# Altium schematic symbol library Analog_ADC.SchLib: 173 symbols (part 1 of 3)
Pins are listed as number, name and electrical type; pins without a type are passive.

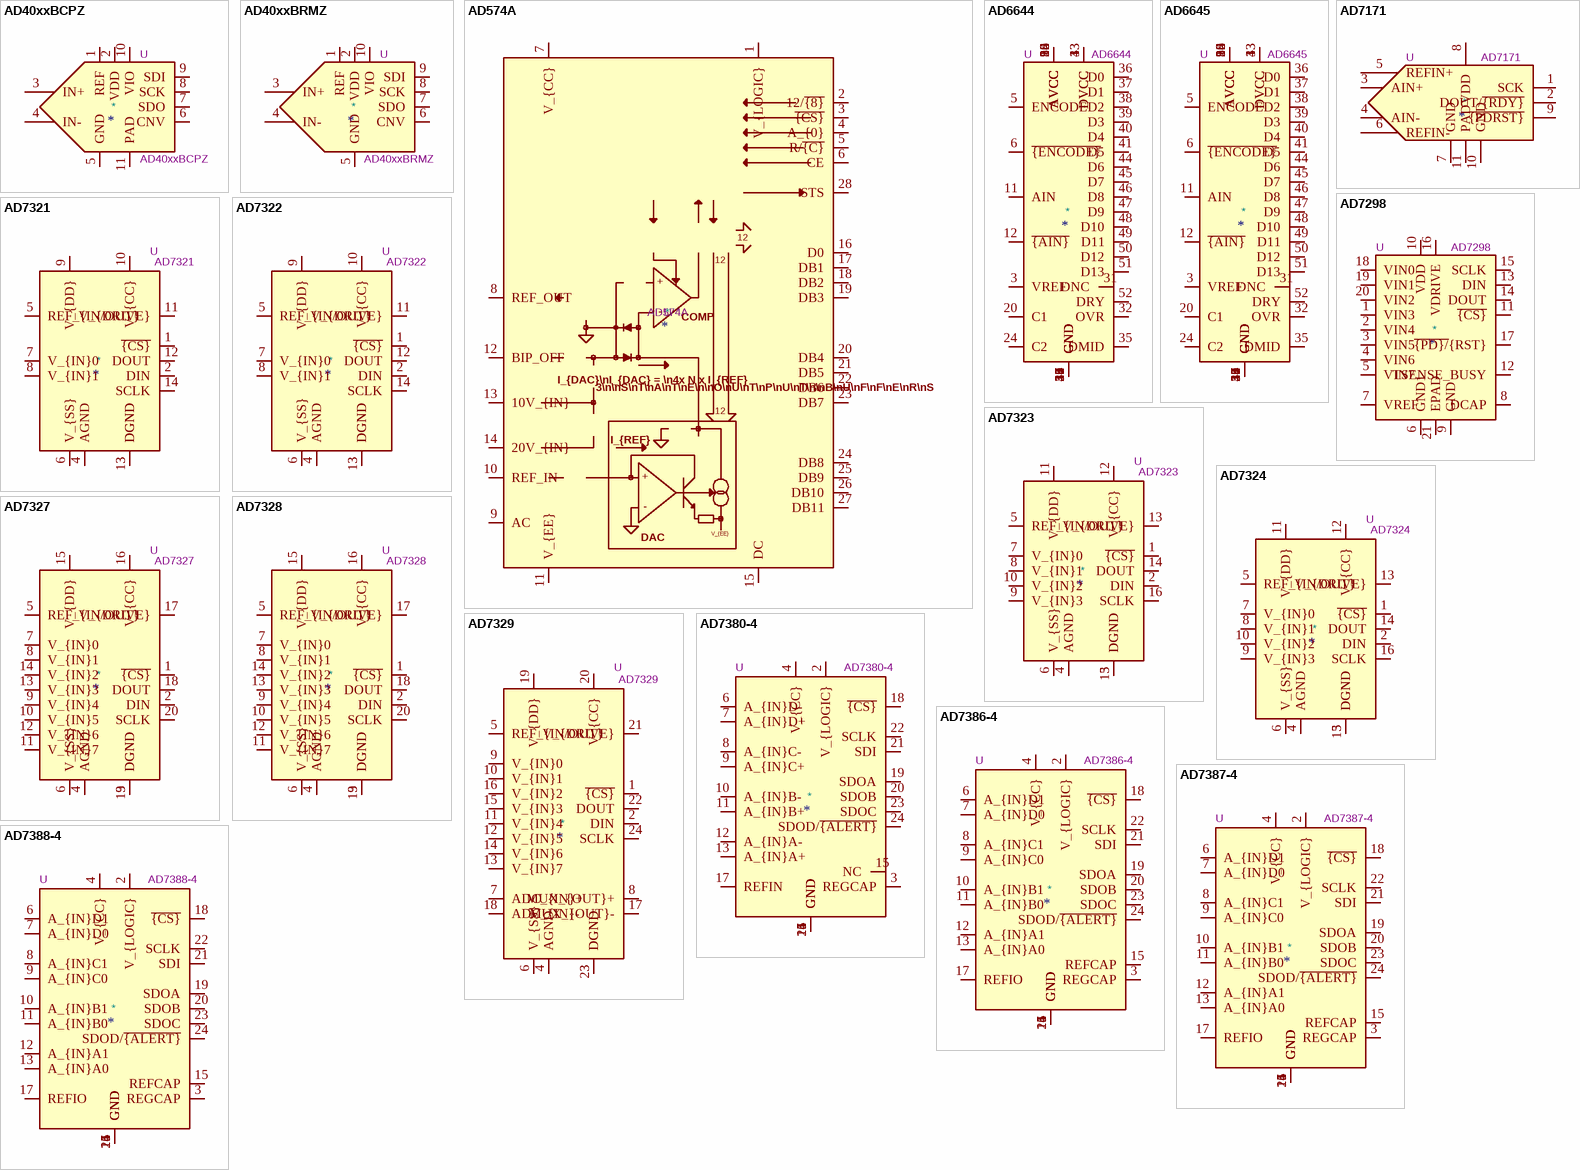
[diagram p0: symbols AD40xxBCPZ to AD7388-4]

## AD40xxBCPZ
designator *  value AD40xxBCPZ  Reference: U
18-Bit, 2 MSPS/1 MSPS/500 kSPS, Differential SAR ADCs, 2.4V to 5.1V reference, 1.8V supply, 1.71 to 5.5V logic IO, 3x3mm LFCSP-10; ki_keywords: ADC 18-bit AD4003BCPZ AD4007BCPZ AD4011BCPZ; ki_fp_filters: *LFCSP?WD*EP?3x3mm?P0.5mm?EP1.64x2.38mm*; Footprint: Package_CSP:LFCSP-WD-10-1EP_3x3mm_P0.5mm_EP1.64x2.38mm; Datasheet: https://www.analog.com/media/en/technical-documentation/data-sheets/ad4003-4007-4011.pdf; Description_: 18-Bit, 2 MSPS/1 MSPS/500 kSPS, Differential SAR ADCs, 2.4V to 5.1V reference, 1.8V supply, 1.71 to 5.5V logic IO, 3x3mm LFCSP-10
pins: 1 REF, 2 VDD, 3 IN+, 4 IN-, 5 GND, 6 CNV, 7 SDO, 8 SCK, 9 SDI, 10 VIO, 11 PAD

## AD40xxBRMZ
designator *  value AD40xxBRMZ  Reference: U
18-Bit, 2 MSPS/1 MSPS/500 kSPS, Differential SAR ADCs, 2.4V to 5.1V reference, 1.8V supply, 1.71 to 5.5V logic IO, MSOP-10; ki_keywords: ADC 18-bit AD4003BRMZ AD4007BRMZ AD4011BRMZ; ki_fp_filters: *MSOP*3x3mm?P0.5mm*; Footprint: Package_SO:MSOP-10_3x3mm_P0.5mm; Datasheet: https://www.analog.com/media/en/technical-documentation/data-sheets/ad4003-4007-4011.pdf; Description_: 18-Bit, 2 MSPS/1 MSPS/500 kSPS, Differential SAR ADCs, 2.4V to 5.1V reference, 1.8V supply, 1.71 to 5.5V logic IO, MSOP-10
pins: 1 REF, 2 VDD, 3 IN+, 4 IN-, 5 GND, 6 CNV, 7 SDO, 8 SCK, 9 SDI, 10 VIO

## AD574A
designator *  value AD574A  Reference: U
12-Bit Successive-Approximation (SAR) ADC; ki_keywords: analog; ki_fp_filters: *DIP*W15.24mm* *PLCC* *LCC*; Datasheet: https://www.analog.com/media/en/technical-documentation/data-sheets/ad574a.pdf; Description_: 12-Bit Successive-Approximation (SAR) ADC
pins: 1 V_{LOGIC}, 2 12/~{{8}}, 3 ~{{CS}}, 4 A_{0}, 5 R/~{{C}}, 6 CE, 7 V_{CC}, 8 REF_OUT, 9 AC, 10 REF_IN, 11 V_{EE}, 12 BIP_OFF, 13 10V_{IN}, 14 20V_{IN}, 15 DC, 16 D0, 17 DB1, 18 DB2, 19 DB3, 20 DB4, 21 DB5, 22 DB6, 23 DB7, 24 DB8, 25 DB9, 26 DB10, 27 DB11, 28 STS
text: +; -; COMP; I_{DAC}\nI_{DAC} = \n4x N x I_{REF}; 3\n\nS\nT\nA\nT\nE\n\nO\nU\nT\nP\nU\nT\n\nB\nU\nF\nF\nE\nR\nS; I_{REF}; DAC

## AD6644
designator *  value AD6644  Reference: U
A/D Converter, 14-Bit, 40 MSPS/65 MSPS, TQFP-52; ki_keywords: ADC differential analog digital converter; ki_fp_filters: TQFP*1EP*10x10mm*P0.65mm*; Footprint: Package_QFP:TQFP-52-1EP_10x10mm_P0.65mm_EP6.5x6.5mm; Datasheet: https://www.analog.com/media/en/technical-documentation/data-sheets/AD6644.pdf; Description_: A/D Converter, 14-Bit, 40 MSPS/65 MSPS, TQFP-52
pins: 1 DVCC, 2 GND, 3 VREF, 4 GND, 5 ENCODE, 6 ~{{ENCODE}}, 7 GND, 8 AVCC, 9 AVCC, 10 GND, 11 AIN, 12 ~{{AIN}}, 13 GND, 14 AVCC, 15 GND, 16 AVCC, 17 GND, 18 AVCC, 19 GND, 20 C1, 21 GND, 22 AVCC, 23 GND, 24 C2, 25 GND, 26 AVCC, 27 GND, 28 AVCC, 29 GND, 30 AVCC, 31 DNC, 32 OVR, 33 DVCC, 34 GND, 35 DMID, 36 D0, 37 D1, 38 D2, 39 D3, 40 D4, 41 D5, 42 GND, 43 DVCC, 44 D6, 45 D7, 46 D8, 47 D9, 48 D10, 49 D11, 50 D12, 51 D13, 52 DRY, 53 GND

## AD6645
designator *  value AD6645  Reference: U
A/D Converter, 14-Bit, 80 MSPS/105 MSPS, TQFP-52; ki_keywords: ADC differential analog digital converter; ki_fp_filters: TQFP*1EP*10x10mm*P0.65mm*; Footprint: Package_QFP:TQFP-52-1EP_10x10mm_P0.65mm_EP6.5x6.5mm; Datasheet: https://www.analog.com/media/en/technical-documentation/data-sheets/AD6645.pdf; Description_: A/D Converter, 14-Bit, 80 MSPS/105 MSPS, TQFP-52
pins: 1 DVCC, 2 GND, 3 VREF, 4 GND, 5 ENCODE, 6 ~{{ENCODE}}, 7 GND, 8 AVCC, 9 AVCC, 10 GND, 11 AIN, 12 ~{{AIN}}, 13 GND, 14 AVCC, 15 GND, 16 AVCC, 17 GND, 18 AVCC, 19 GND, 20 C1, 21 GND, 22 AVCC, 23 GND, 24 C2, 25 GND, 26 AVCC, 27 GND, 28 AVCC, 29 GND, 30 AVCC, 31 DNC, 32 OVR, 33 DVCC, 34 GND, 35 DMID, 36 D0, 37 D1, 38 D2, 39 D3, 40 D4, 41 D5, 42 GND, 43 DVCC, 44 D6, 45 D7, 46 D8, 47 D9, 48 D10, 49 D11, 50 D12, 51 D13, 52 DRY, 53 GND

## AD7171
designator *  value AD7171  Reference: U
Single channel Analog to Digital Converter, 16-bit, differential input, 125Hz, SPI interface; ki_keywords: sigma delta adc spi 1ch; ki_fp_filters: DFN*1EP*3x3mm*P0.5mm*EP1.55x2.48mm*; Footprint: Package_DFN_QFN:DFN-10-1EP_3x3mm_P0.5mm_EP1.55x2.48mm; Datasheet: https://www.analog.com/media/en/technical-documentation/data-sheets/AD7171.pdf; Description_: Single channel Analog to Digital Converter, 16-bit, differential input, 125Hz, SPI interface
pins: 1 SCK, 2 DOUT/~{{RDY}}, 3 AIN+, 4 AIN-, 5 REFIN+, 6 REFIN-, 7 GND, 8 VDD, 9 ~{{PDRST}}, 10 GND, 11 PAD

## AD7298
designator *  value AD7298  Reference: U
8 channel, 1MSPS, 12-bit SAR ADC with Temperature Sensor, LFCSP-20; ki_keywords: ADC, 3.3V, SPI; ki_fp_filters: LFCSP*1EP*4x4mm*P0.5mm*; Footprint: Package_CSP:LFCSP-20-1EP_4x4mm_P0.5mm_EP2.6x2.6mm_ThermalVias; Datasheet: https://www.analog.com/media/en/technical-documentation/data-sheets/AD7298.pdf; Description_: 8 channel, 1MSPS, 12-bit SAR ADC with Temperature Sensor, LFCSP-20
pins: 1 VIN3, 2 VIN4, 3 VIN5, 4 VIN6, 5 VIN7, 6 GND1, 7 VREF, 8 DCAP, 9 GND, 10 VDD, 11 ~{{CS}}, 12 TSENSE_BUSY, 13 DIN, 14 DOUT, 15 SCLK, 16 VDRIVE, 17 ~{{PD}/}{RST}, 18 VIN0, 19 VIN1, 20 VIN2, 21 EPAD

## AD7321
designator *  value AD7321  Reference: U
2-Channel, software selectable input range ±10 V, ±5V, ±2.5V, 0 V to +10 V, true bipolar input, 12-Bit plus sign, 500 kSPS SAR ADC, TSSOP-14; ki_keywords: Analog-Devices ADC bipolar 12-Bit SPI; ki_fp_filters: TSSOP*4.4x5mm*P0.65mm*; Footprint: Package_SO:TSSOP-14_4.4x5mm_P0.65mm; Datasheet: https://www.analog.com/media/en/technical-documentation/data-sheets/AD7321.pdf; Description_: 2-Channel, software selectable input range ±10 V, ±5V, ±2.5V, 0 V to +10 V, true bipolar input, 12-Bit plus sign, 500 kSPS SAR ADC, TSSOP-14
pins: 1 ~{{CS}}, 2 DIN, 3 DGND, 4 AGND, 5 REF_{IN/OUT}, 6 V_{SS}, 7 V_{IN}0, 8 V_{IN}1, 9 V_{DD}, 10 V_{CC}, 11 V_{DRIVE}, 12 DOUT, 13 DGND, 14 SCLK

## AD7322
designator *  value AD7322  Reference: U
2-Channel, software selectable input range ±10 V, ±5V, ±2.5V, 0 V to +10 V, true bipolar input, 12-Bit plus sign, 1 MSPS SAR ADC, TSSOP-14; ki_keywords: Analog-Devices ADC bipolar 12-Bit SPI; ki_fp_filters: TSSOP*4.4x5mm*P0.65mm*; Footprint: Package_SO:TSSOP-14_4.4x5mm_P0.65mm; Datasheet: https://www.analog.com/media/en/technical-documentation/data-sheets/AD7322.pdf; Description_: 2-Channel, software selectable input range ±10 V, ±5V, ±2.5V, 0 V to +10 V, true bipolar input, 12-Bit plus sign, 1 MSPS SAR ADC, TSSOP-14
pins: 1 ~{{CS}}, 2 DIN, 3 DGND, 4 AGND, 5 REF_{IN/OUT}, 6 V_{SS}, 7 V_{IN}0, 8 V_{IN}1, 9 V_{DD}, 10 V_{CC}, 11 V_{DRIVE}, 12 DOUT, 13 DGND, 14 SCLK

## AD7323
designator *  value AD7323  Reference: U
4-Channel, software selectable input range ±10 V, ±5V, ±2.5V, 0 V to +10 V, true bipolar input, 12-Bit plus sign, 500 kSPS SAR ADC, TSSOP-16; ki_keywords: Analog-Devices ADC bipolar 12-Bit SPI; ki_fp_filters: TSSOP*4.4x5mm*P0.65mm*; Footprint: Package_SO:TSSOP-16_4.4x5mm_P0.65mm; Datasheet: https://www.analog.com/media/en/technical-documentation/data-sheets/AD7323.pdf; Description_: 4-Channel, software selectable input range ±10 V, ±5V, ±2.5V, 0 V to +10 V, true bipolar input, 12-Bit plus sign, 500 kSPS SAR ADC, TSSOP-16
pins: 1 ~{{CS}}, 2 DIN, 3 DGND, 4 AGND, 5 REF_{IN/OUT}, 6 V_{SS}, 7 V_{IN}0, 8 V_{IN}1, 9 V_{IN}3, 10 V_{IN}2, 11 V_{DD}, 12 V_{CC}, 13 V_{DRIVE}, 14 DOUT, 15 DGND, 16 SCLK

## AD7324
designator *  value AD7324  Reference: U
4-Channel, software selectable input range ±10 V, ±5V, ±2.5V, 0 V to +10 V, true bipolar input, 12-Bit plus sign, 1 MSPS SAR ADC, TSSOP-16; ki_keywords: Analog-Devices ADC bipolar 12-Bit SPI; ki_fp_filters: TSSOP*4.4x5mm*P0.65mm*; Footprint: Package_SO:TSSOP-16_4.4x5mm_P0.65mm; Datasheet: https://www.analog.com/media/en/technical-documentation/data-sheets/AD7324.pdf; Description_: 4-Channel, software selectable input range ±10 V, ±5V, ±2.5V, 0 V to +10 V, true bipolar input, 12-Bit plus sign, 1 MSPS SAR ADC, TSSOP-16
pins: 1 ~{{CS}}, 2 DIN, 3 DGND, 4 AGND, 5 REF_{IN/OUT}, 6 V_{SS}, 7 V_{IN}0, 8 V_{IN}1, 9 V_{IN}3, 10 V_{IN}2, 11 V_{DD}, 12 V_{CC}, 13 V_{DRIVE}, 14 DOUT, 15 DGND, 16 SCLK

## AD7327
designator *  value AD7327  Reference: U
8-Channel, software selectable input range ±10 V, ±5V, ±2.5V, 0 V to +10 V, true bipolar input, 12-Bit plus sign, 500 kSPS SAR ADC, TSSOP-20; ki_keywords: Analog-Devices ADC bipolar 12-Bit SPI; ki_fp_filters: TSSOP*4.4x6.5mm*P0.65mm*; Footprint: Package_SO:TSSOP-20_4.4x6.5mm_P0.65mm; Datasheet: https://www.analog.com/media/en/technical-documentation/data-sheets/ad7327.pdf; Description_: 8-Channel, software selectable input range ±10 V, ±5V, ±2.5V, 0 V to +10 V, true bipolar input, 12-Bit plus sign, 500 kSPS SAR ADC, TSSOP-20
pins: 1 ~{{CS}}, 2 DIN, 3 DGND, 4 AGND, 5 REF_{IN/OUT}, 6 V_{SS}, 7 V_{IN}0, 8 V_{IN}1, 9 V_{IN}4, 10 V_{IN}5, 11 V_{IN}7, 12 V_{IN}6, 13 V_{IN}3, 14 V_{IN}2, 15 V_{DD}, 16 V_{CC}, 17 V_{DRIVE}, 18 DOUT, 19 DGND, 20 SCLK

## AD7328
designator *  value AD7328  Reference: U
8-Channel, software selectable input range ±10 V, ±5V, ±2.5V, 0 V to +10 V, true bipolar input, 12-Bit plus sign, 1 MSPS SAR ADC, TSSOP-20; ki_keywords: Analog-Devices ADC bipolar 12-Bit SPI; ki_fp_filters: TSSOP*4.4x6.5mm*P0.65mm*; Footprint: Package_SO:TSSOP-20_4.4x6.5mm_P0.65mm; Datasheet: https://www.analog.com/media/en/technical-documentation/data-sheets/AD7328.pdf; Description_: 8-Channel, software selectable input range ±10 V, ±5V, ±2.5V, 0 V to +10 V, true bipolar input, 12-Bit plus sign, 1 MSPS SAR ADC, TSSOP-20
pins: 1 ~{{CS}}, 2 DIN, 3 DGND, 4 AGND, 5 REF_{IN/OUT}, 6 V_{SS}, 7 V_{IN}0, 8 V_{IN}1, 9 V_{IN}4, 10 V_{IN}5, 11 V_{IN}7, 12 V_{IN}6, 13 V_{IN}3, 14 V_{IN}2, 15 V_{DD}, 16 V_{CC}, 17 V_{DRIVE}, 18 DOUT, 19 DGND, 20 SCLK

## AD7329
designator *  value AD7329  Reference: U
8-Channel, software selectable input range ±10 V, ±5V, ±2.5V, 0 V to +10 V, true bipolar input, 12-Bit plus sign, 1 MSPS SAR ADC, TSSOP-24; ki_keywords: Analog-Devices ADC bipolar 12-Bit SPI; ki_fp_filters: TSSOP*4.4x7.8mm*P0.65mm*; Footprint: Package_SO:TSSOP-24_4.4x7.8mm_P0.65mm; Datasheet: https://www.analog.com/media/en/technical-documentation/data-sheets/AD7329.pdf; Description_: 8-Channel, software selectable input range ±10 V, ±5V, ±2.5V, 0 V to +10 V, true bipolar input, 12-Bit plus sign, 1 MSPS SAR ADC, TSSOP-24
pins: 1 ~{{CS}}, 2 DIN, 3 DGND, 4 AGND, 5 REF_{IN/OUT}, 6 V_{SS}, 7 ADC_{IN}+, 8 MUX_{OUT}+, 9 V_{IN}0, 10 V_{IN}1, 11 V_{IN}4, 12 V_{IN}5, 13 V_{IN}7, 14 V_{IN}6, 15 V_{IN}3, 16 V_{IN}2, 17 MUX_{OUT}-, 18 ADC_{IN}-, 19 V_{DD}, 20 V_{CC}, 21 V_{DRIVE}, 22 DOUT, 23 DGND, 24 SCLK

## AD7380-4
designator *  value AD7380-4  Reference: U
Differential Input, Quad, External Reference Simultaneous Sampling, 16-bit resolution, SAR ADC, SNR = 92 dB at VREF=3.3V, UQFN-24 (LFCSP-24); ki_keywords: Analog-Devices SPI; ki_fp_filters: LFCSP*4x4mm*P0.5mm*EP0.5x0.5mm*; Footprint: Package_CSP:LFCSP-24-1EP_4x4mm_P0.5mm_EP0.5x0.5mm; Datasheet: https://www.analog.com/media/en/technical-documentation/data-sheets/ad7380-4.pdf; Description_: Differential Input, Quad, External Reference Simultaneous Sampling, 16-bit resolution, SAR ADC, SNR = 92 dB at VREF=3.3V, UQFN-24 (LFCSP-24)
pins: 1 GND, 2 V_{LOGIC}, 3 REGCAP, 4 V_{CC}, 5 GND, 6 A_{IN}D-, 7 A_{IN}D+, 8 A_{IN}C-, 9 A_{IN}C+, 10 A_{IN}B-, 11 A_{IN}B+, 12 A_{IN}A-, 13 A_{IN}A+, 14 GND, 15 NC, 16 GND, 17 REFIN, 18 ~{{CS}}, 19 SDOA, 20 SDOB, 21 SDI, 22 SCLK, 23 SDOC, 24 SDOD/~{{ALERT}}, 25 GND

## AD7386-4
designator *  value AD7386-4  Reference: U
Single-Ended Input, Quad, Simultaneous Sampling, 16-bit resolution, SAR ADC, SNR = 84.7 dB at VREF = 3.3V, UQFN-24 (LFCSP-24); ki_keywords: Analog-Devices SPI; ki_fp_filters: LFCSP*4x4mm*P0.5mm*EP0.5x0.5mm*; Footprint: Package_CSP:LFCSP-24-1EP_4x4mm_P0.5mm_EP0.5x0.5mm; Datasheet: https://www.analog.com/media/en/technical-documentation/data-sheets/ad7386-4-7387-4-7388-4.pdf; Description_: Single-Ended Input, Quad, Simultaneous Sampling, 16-bit resolution, SAR ADC, SNR = 84.7 dB at VREF = 3.3V, UQFN-24 (LFCSP-24)
pins: 1 GND, 2 V_{LOGIC}, 3 REGCAP, 4 V_{CC}, 5 GND, 6 A_{IN}D1, 7 A_{IN}D0, 8 A_{IN}C1, 9 A_{IN}C0, 10 A_{IN}B1, 11 A_{IN}B0, 12 A_{IN}A1, 13 A_{IN}A0, 14 GND, 15 REFCAP, 16 GND, 17 REFIO, 18 ~{{CS}}, 19 SDOA, 20 SDOB, 21 SDI, 22 SCLK, 23 SDOC, 24 SDOD/~{{ALERT}}, 25 GND

## AD7387-4
designator *  value AD7387-4  Reference: U
Single-Ended Input, Quad, Simultaneous Sampling, 14-bit resolution, SAR ADC, SNR = 82.4 dB at VREF = 3.3V, UQFN-24 (LFCSP-24); ki_keywords: Analog-Devices SPI; ki_fp_filters: LFCSP*4x4mm*P0.5mm*EP0.5x0.5mm*; Footprint: Package_CSP:LFCSP-24-1EP_4x4mm_P0.5mm_EP0.5x0.5mm; Datasheet: https://www.analog.com/media/en/technical-documentation/data-sheets/ad7386-4-7387-4-7388-4.pdf; Description_: Single-Ended Input, Quad, Simultaneous Sampling, 14-bit resolution, SAR ADC, SNR = 82.4 dB at VREF = 3.3V, UQFN-24 (LFCSP-24)
pins: 1 GND, 2 V_{LOGIC}, 3 REGCAP, 4 V_{CC}, 5 GND, 6 A_{IN}D1, 7 A_{IN}D0, 8 A_{IN}C1, 9 A_{IN}C0, 10 A_{IN}B1, 11 A_{IN}B0, 12 A_{IN}A1, 13 A_{IN}A0, 14 GND, 15 REFCAP, 16 GND, 17 REFIO, 18 ~{{CS}}, 19 SDOA, 20 SDOB, 21 SDI, 22 SCLK, 23 SDOC, 24 SDOD/~{{ALERT}}, 25 GND

## AD7388-4
designator *  value AD7388-4  Reference: U
Single-Ended Input, Quad, Simultaneous Sampling, 12-bit resolution, SAR ADC, SNR = 73.7 dB at VREF = 3.3V, UQFN-24 (LFCSP-24); ki_keywords: Analog-Devices SPI; ki_fp_filters: LFCSP*4x4mm*P0.5mm*EP0.5x0.5mm*; Footprint: Package_CSP:LFCSP-24-1EP_4x4mm_P0.5mm_EP0.5x0.5mm; Datasheet: https://www.analog.com/media/en/technical-documentation/data-sheets/ad7386-4-7387-4-7388-4.pdf; Description_: Single-Ended Input, Quad, Simultaneous Sampling, 12-bit resolution, SAR ADC, SNR = 73.7 dB at VREF = 3.3V, UQFN-24 (LFCSP-24)
pins: 1 GND, 2 V_{LOGIC}, 3 REGCAP, 4 V_{CC}, 5 GND, 6 A_{IN}D1, 7 A_{IN}D0, 8 A_{IN}C1, 9 A_{IN}C0, 10 A_{IN}B1, 11 A_{IN}B0, 12 A_{IN}A1, 13 A_{IN}A0, 14 GND, 15 REFCAP, 16 GND, 17 REFIO, 18 ~{{CS}}, 19 SDOA, 20 SDOB, 21 SDI, 22 SCLK, 23 SDOC, 24 SDOD/~{{ALERT}}, 25 GND

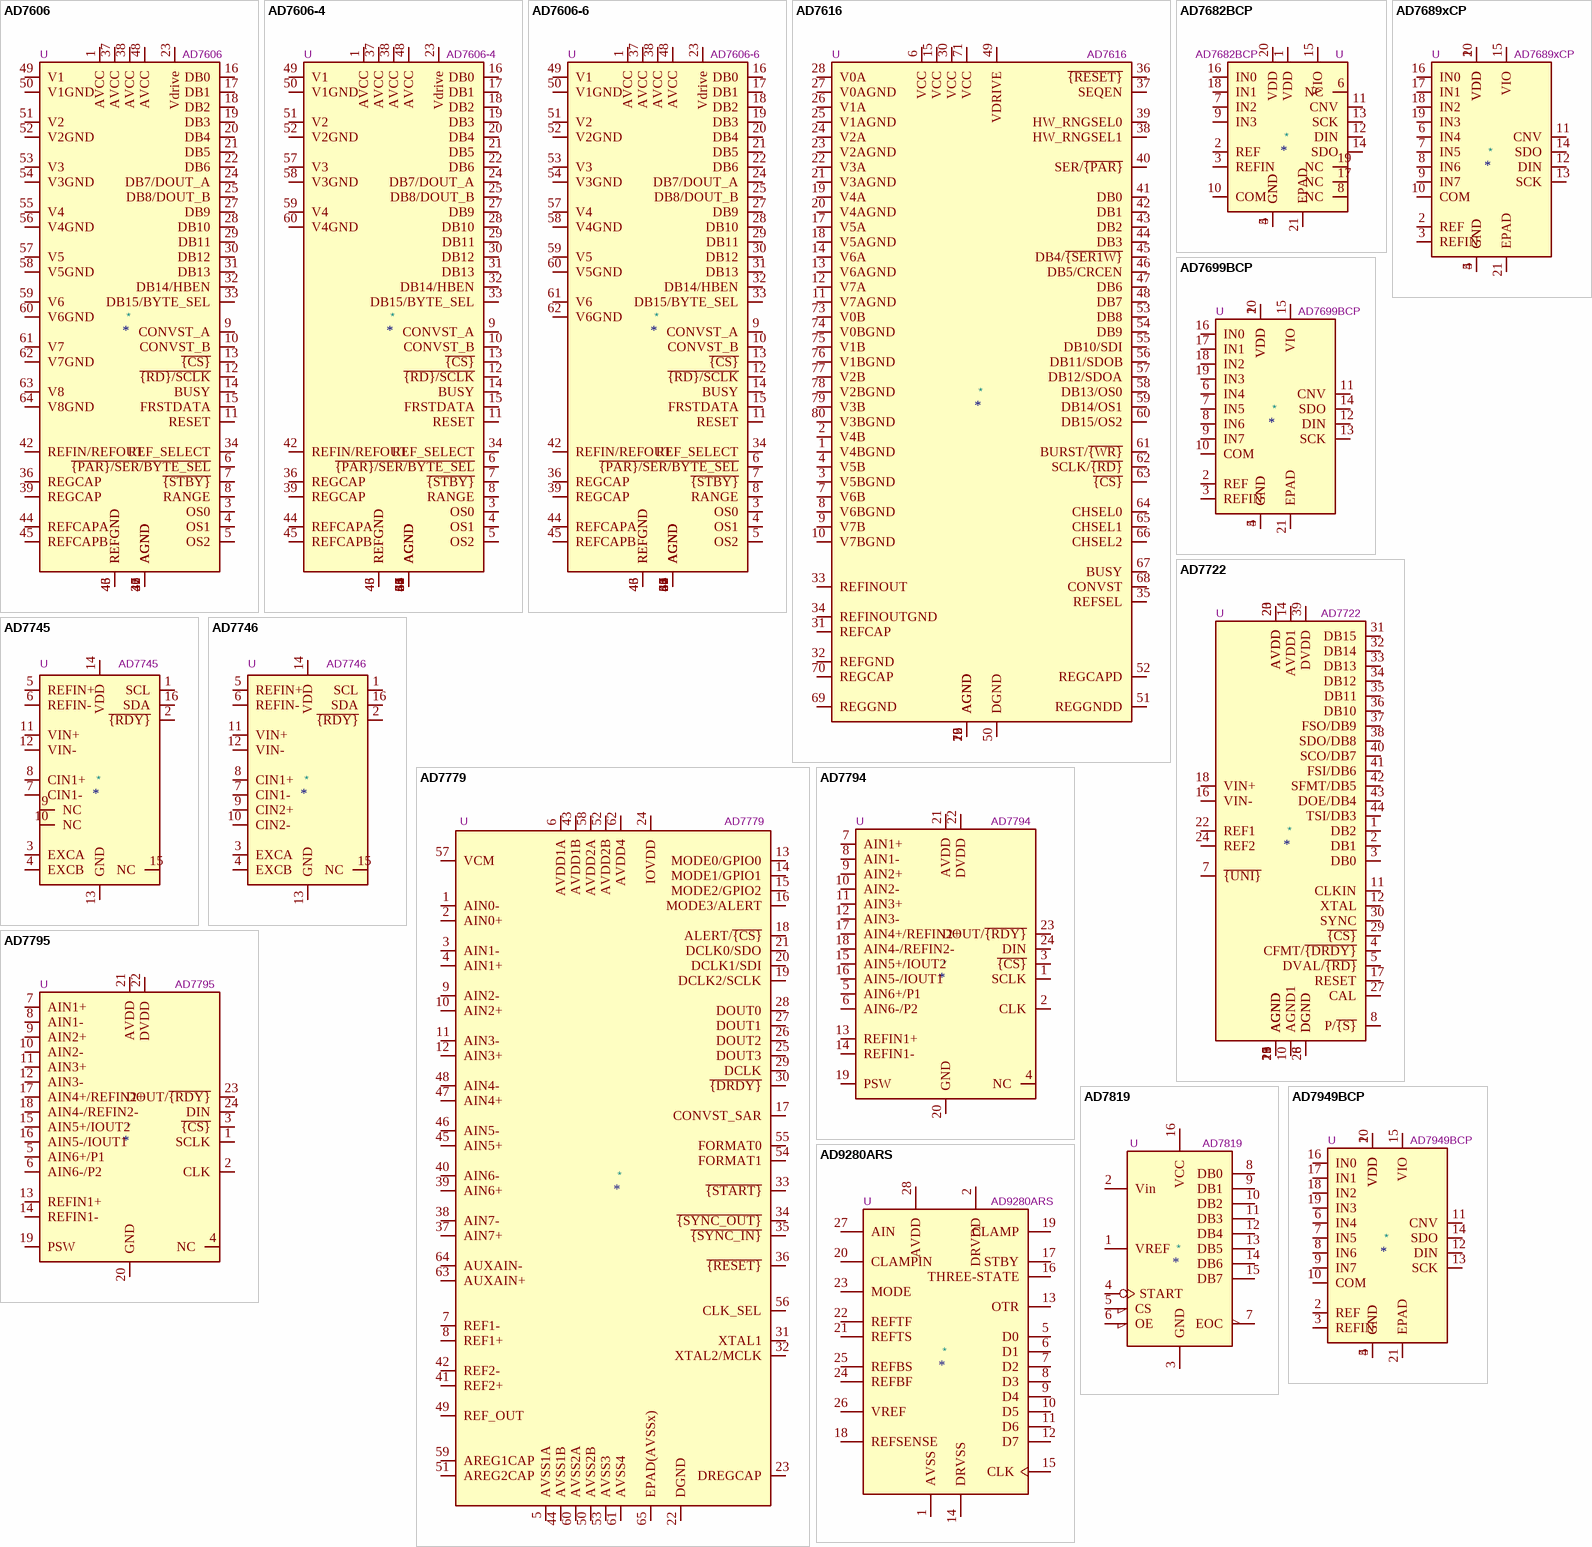
[diagram p1: symbols AD7606 to AD9280ARS]

## AD7606
designator *  value AD7606  Reference: U
8-Channel DAS with 16-Bit, Bipolar Input, Simultaneous Sampling ADC, LQFP-64; ki_keywords: 16bit DAS ADC 8channel 200KSPS; ki_fp_filters: LQFP*10x10mm*P0.5mm*; Footprint: Package_QFP:LQFP-64_10x10mm_P0.5mm; Datasheet: https://www.analog.com/media/en/technical-documentation/data-sheets/ad7606_7606-6_7606-4.pdf; Description_: 8-Channel DAS with 16-Bit, Bipolar Input, Simultaneous Sampling ADC, LQFP-64
pins: 1 AVCC, 2 AGND, 3 OS0, 4 OS1, 5 OS2, 6 ~{{PAR}/SER/BYTE_SEL}, 7 ~{{STBY}}, 8 RANGE, 9 CONVST_A, 10 CONVST_B, 11 RESET, 12 ~{{RD}/SCLK}, 13 ~{{CS}}, 14 BUSY, 15 FRSTDATA, 16 DB0, 17 DB1, 18 DB2, 19 DB3, 20 DB4, 21 DB5, 22 DB6, 23 Vdrive, 24 DB7/DOUT_A, 25 DB8/DOUT_B, 26 AGND, 27 DB9, 28 DB10, 29 DB11, 30 DB12, 31 DB13, 32 DB14/HBEN, 33 DB15/BYTE_SEL, 34 REF_SELECT, 35 AGND, 36 REGCAP, 37 AVCC, 38 AVCC, 39 REGCAP, 40 AGND, 41 AGND, 42 REFIN/REFOUT, 43 REFGND, 44 REFCAPA, 45 REFCAPB, 46 REFGND, 47 AGND, 48 AVCC, 49 V1, 50 V1GND, 51 V2, 52 V2GND, 53 V3, 54 V3GND, 55 V4, 56 V4GND, 57 V5, 58 V5GND, 59 V6, 60 V6GND, 61 V7, 62 V7GND, 63 V8, 64 V8GND

## AD7606-4
designator *  value AD7606-4  Reference: U
4-Channel DAS with 16-Bit, Bipolar Input, Simultaneous Sampling ADC, LQFP-64; ki_keywords: 16bit DAS ADC 4channel 200KSPS; ki_fp_filters: LQFP*10x10mm*P0.5mm*; Footprint: Package_QFP:LQFP-64_10x10mm_P0.5mm; Datasheet: https://www.analog.com/media/en/technical-documentation/data-sheets/ad7606_7606-6_7606-4.pdf; Description_: 4-Channel DAS with 16-Bit, Bipolar Input, Simultaneous Sampling ADC, LQFP-64
pins: 1 AVCC, 2 AGND, 3 OS0, 4 OS1, 5 OS2, 6 ~{{PAR}/SER/BYTE_SEL}, 7 ~{{STBY}}, 8 RANGE, 9 CONVST_A, 10 CONVST_B, 11 RESET, 12 ~{{RD}/SCLK}, 13 ~{{CS}}, 14 BUSY, 15 FRSTDATA, 16 DB0, 17 DB1, 18 DB2, 19 DB3, 20 DB4, 21 DB5, 22 DB6, 23 Vdrive, 24 DB7/DOUT_A, 25 DB8/DOUT_B, 26 AGND, 27 DB9, 28 DB10, 29 DB11, 30 DB12, 31 DB13, 32 DB14/HBEN, 33 DB15/BYTE_SEL, 34 REF_SELECT, 35 AGND, 36 REGCAP, 37 AVCC, 38 AVCC, 39 REGCAP, 40 AGND, 41 AGND, 42 REFIN/REFOUT, 43 REFGND, 44 REFCAPA, 45 REFCAPB, 46 REFGND, 47 AGND, 48 AVCC, 49 V1, 50 V1GND, 51 V2, 52 V2GND, 53 AGND, 54 AGND, 55 AGND, 56 AGND, 57 V3, 58 V3GND, 59 V4, 60 V4GND, 61 AGND, 62 AGND, 63 AGND, 64 AGND

## AD7606-6
designator *  value AD7606-6  Reference: U
6-Channel DAS with 16-Bit, Bipolar Input, Simultaneous Sampling ADC, LQFP-64; ki_keywords: 16bit DAS ADC 6channel 200KSPS; ki_fp_filters: LQFP*10x10mm*P0.5mm*; Footprint: Package_QFP:LQFP-64_10x10mm_P0.5mm; Datasheet: https://www.analog.com/media/en/technical-documentation/data-sheets/ad7606_7606-6_7606-4.pdf; Description_: 6-Channel DAS with 16-Bit, Bipolar Input, Simultaneous Sampling ADC, LQFP-64
pins: 1 AVCC, 2 AGND, 3 OS0, 4 OS1, 5 OS2, 6 ~{{PAR}/SER/BYTE_SEL}, 7 ~{{STBY}}, 8 RANGE, 9 CONVST_A, 10 CONVST_B, 11 RESET, 12 ~{{RD}/SCLK}, 13 ~{{CS}}, 14 BUSY, 15 FRSTDATA, 16 DB0, 17 DB1, 18 DB2, 19 DB3, 20 DB4, 21 DB5, 22 DB6, 23 Vdrive, 24 DB7/DOUT_A, 25 DB8/DOUT_B, 26 AGND, 27 DB9, 28 DB10, 29 DB11, 30 DB12, 31 DB13, 32 DB14/HBEN, 33 DB15/BYTE_SEL, 34 REF_SELECT, 35 AGND, 36 REGCAP, 37 AVCC, 38 AVCC, 39 REGCAP, 40 AGND, 41 AGND, 42 REFIN/REFOUT, 43 REFGND, 44 REFCAPA, 45 REFCAPB, 46 REFGND, 47 AGND, 48 AVCC, 49 V1, 50 V1GND, 51 V2, 52 V2GND, 53 V3, 54 V3GND, 55 AGND, 56 AGND, 57 V4, 58 V4GND, 59 V5, 60 V5GND, 61 V6, 62 V6GND, 63 AGND, 64 AGND

## AD7616
designator *  value AD7616  Reference: U
16-Channel DAS with 16-Bit, Bipolar Input, Dual Simultaneous Sampling ADC, 2x1MSPS ADC, Serial and parallel IO, LQFP-80; ki_keywords: 16bit DAS ADC 16channel 1MSPS; ki_fp_filters: *LQFP*14x14mm*P0.65mm*; Footprint: Package_QFP:LQFP-80_14x14mm_P0.65mm; Datasheet: https://www.analog.com/media/en/technical-documentation/data-sheets/AD7616.pdf; Description_: 16-Channel DAS with 16-Bit, Bipolar Input, Dual Simultaneous Sampling ADC, 2x1MSPS ADC, Serial and parallel IO, LQFP-80
pins: 1 V4BGND, 2 V4B, 3 V5BGND, 4 V5B, 5 AGND, 6 VCC, 7 V6B, 8 V6BGND, 9 V7B, 10 V7BGND, 11 V7AGND, 12 V7A, 13 V6AGND, 14 V6A, 15 VCC, 16 AGND, 17 V5A, 18 V5AGND, 19 V4A, 20 V4AGND, 21 V3AGND, 22 V3A, 23 V2AGND, 24 V2A, 25 V1AGND, 26 V1A, 27 V0AGND, 28 V0A, 29 AGND, 30 VCC, 31 REFCAP, 32 REFGND, 33 REFINOUT, 34 REFINOUTGND, 35 REFSEL, 36 ~{{RESET}}, 37 SEQEN, 38 HW_RNGSEL1, 39 HW_RNGSEL0, 40 SER/~{{PAR}}, 41 DB0, 42 DB1, 43 DB2, 44 DB3, 45 DB4/~{{SER1W}}, 46 DB5/CRCEN, 47 DB6, 48 DB7, 49 VDRIVE, 50 DGND, 51 REGGNDD, 52 REGCAPD, 53 DB8, 54 DB9, 55 DB10/SDI, 56 DB11/SDOB, 57 DB12/SDOA, 58 DB13/OS0, 59 DB14/OS1, 60 DB15/OS2, 61 BURST/~{{WR}}, 62 SCLK/~{{RD}}, 63 ~{{CS}}, 64 CHSEL0, 65 CHSEL1, 66 CHSEL2, 67 BUSY, 68 CONVST, 69 REGGND, 70 REGCAP, 71 VCC, 72 AGND, 73 V0B, 74 V0BGND, 75 V1B, 76 V1BGND, 77 V2B, 78 V2BGND, 79 V3B, 80 V3BGND

## AD7682BCP
designator *  value AD7682BCP  Reference: U
16-bit, 4-Channel, 250kSPS, PulSAR ADC, Bipolar-Unipolar, LFCSP-20; ki_keywords: 16-Bit 4-Channel 250kSPS; ki_fp_filters: LFCSP*1EP*4x4mm*P0.5mm*; Footprint: Package_CSP:LFCSP-20-1EP_4x4mm_P0.5mm_EP2.5x2.5mm; Datasheet: https://www.analog.com/media/en/technical-documentation/data-sheets/AD7682_7689.pdf; Description_: 16-bit, 4-Channel, 250kSPS, PulSAR ADC, Bipolar-Unipolar, LFCSP-20
pins: 1 VDD, 2 REF, 3 REFIN, 4 GND, 5 GND, 6 NC, 7 IN2, 8 NC, 9 IN3, 10 COM, 11 CNV, 12 DIN, 13 SCK, 14 SDO, 15 VIO, 16 IN0, 17 NC, 18 IN1, 19 NC, 20 VDD, 21 EPAD

## AD7689xCP
designator *  value AD7689xCP  Reference: U
16-Bit, 8-Channel, 250 kSPS PulSAR ADC, LFSCP-20; ki_keywords: ADC, SPI; ki_fp_filters: LFCSP*1EP*4x4mm*P0.5mm*; Footprint: Package_CSP:LFCSP-20-1EP_4x4mm_P0.5mm_EP2.5x2.5mm; Datasheet: https://www.analog.com/media/en/technical-documentation/data-sheets/AD7682_7689.pdf; Description_: 16-Bit, 8-Channel, 250 kSPS PulSAR ADC, LFSCP-20
pins: 1 VDD, 2 REF, 3 REFIN, 4 GND, 5 GND, 6 IN4, 7 IN5, 8 IN6, 9 IN7, 10 COM, 11 CNV, 12 DIN, 13 SCK, 14 SDO, 15 VIO, 16 IN0, 17 IN1, 18 IN2, 19 IN3, 20 VDD, 21 EPAD

## AD7699BCP
designator *  value AD7699BCP  Reference: U
16-Bit, 8-Channel, 500 kSPS PulSAR ADC, LFSCP-20; ki_keywords: ADC, SPI; ki_fp_filters: LFCSP*1EP*4x4mm*P0.5mm*; Footprint: Package_CSP:LFCSP-20-1EP_4x4mm_P0.5mm_EP2.5x2.5mm; Datasheet: https://www.analog.com/media/en/technical-documentation/data-sheets/AD7699.pdf; Description_: 16-Bit, 8-Channel, 500 kSPS PulSAR ADC, LFSCP-20
pins: 1 VDD, 2 REF, 3 REFIN, 4 GND, 5 GND, 6 IN4, 7 IN5, 8 IN6, 9 IN7, 10 COM, 11 CNV, 12 DIN, 13 SCK, 14 SDO, 15 VIO, 16 IN0, 17 IN1, 18 IN2, 19 IN3, 20 VDD, 21 EPAD

## AD7722
designator *  value AD7722  Reference: U
16-Bit, 195 kSPS CMOS, Sigma-Delta ADC, PQFP-44 (JEDEC MO-112 variation AA-2); ki_keywords: adc 1ch 16bit parallel serial; ki_fp_filters: *PQFP*10x10mm*P0.8mm*; Footprint: Package_QFP:Microchip_PQFP-44_10x10mm_P0.8mm; Datasheet: https://www.analog.com/media/en/technical-documentation/data-sheets/AD7722.pdf; Description_: 16-Bit, 195 kSPS CMOS, Sigma-Delta ADC, PQFP-44 (JEDEC MO-112 variation AA-2)
pins: 1 DB2, 2 DB1, 3 DB0, 4 CFMT/~{{DRDY}}, 5 DVAL/~{{RD}}, 6 DGND, 7 ~{{UNI}}, 8 P/~{{S}}, 9 AGND, 10 AGND1, 11 CLKIN, 12 XTAL, 13 AGND, 14 AVDD1, 15 AGND, 16 VIN-, 17 RESET, 18 VIN+, 19 AGND, 20 AVDD, 21 AGND, 22 REF1, 23 AVDD, 24 REF2, 25 AGND, 26 AGND, 27 CAL, 28 DGND, 29 ~{{CS}}, 30 SYNC, 31 DB15, 32 DB14, 33 DB13, 34 DB12, 35 DB11, 36 DB10, 37 FSO/DB9, 38 SDO/DB8, 39 DVDD, 40 SCO/DB7, 41 FSI/DB6, 42 SFMT/DB5, 43 DOE/DB4, 44 TSI/DB3

## AD7745
designator *  value AD7745  Reference: U
24-bit capacitance-to-digital converter with temperature sensor, TSSOP-16; ki_keywords: adc cdc capacitance; ki_fp_filters: TSSOP*4.4x5mm*P0.65mm*; Footprint: Package_SO:TSSOP-16_4.4x5mm_P0.65mm; Datasheet: https://www.analog.com/media/en/technical-documentation/data-sheets/AD7745_7746.pdf; Description_: 24-bit capacitance-to-digital converter with temperature sensor, TSSOP-16
pins: 1 SCL, 2 ~{{RDY}}, 3 EXCA, 4 EXCB, 5 REFIN+, 6 REFIN-, 7 CIN1-, 8 CIN1+, 9 NC, 10 NC, 11 VIN+, 12 VIN-, 13 GND, 14 VDD, 15 NC, 16 SDA

## AD7746
designator *  value AD7746  Reference: U
24-bit capacitance-to-digital converter with temperature sensor, TSSOP-16; ki_keywords: adc cdc capacitance; ki_fp_filters: TSSOP*4.4x5mm*P0.65mm*; Footprint: Package_SO:TSSOP-16_4.4x5mm_P0.65mm; Datasheet: https://www.analog.com/media/en/technical-documentation/data-sheets/AD7745_7746.pdf; Description_: 24-bit capacitance-to-digital converter with temperature sensor, TSSOP-16
pins: 1 SCL, 2 ~{{RDY}}, 3 EXCA, 4 EXCB, 5 REFIN+, 6 REFIN-, 7 CIN1-, 8 CIN1+, 9 CIN2+, 10 CIN2-, 11 VIN+, 12 VIN-, 13 GND, 14 VDD, 15 NC, 16 SDA

## AD7779
designator *  value AD7779  Reference: U
8-Channel, 24-bit, Simultaneous Sampling ADC, WQFN-64 (LFCSP-64); ki_keywords: Analog-Devices SPI SAR PGA; ki_fp_filters: *9x9mm*P0.5mm*EP7.6*x7.6*; Footprint: Package_DFN_QFN:QFN-64-1EP_9x9mm_P0.5mm_EP7.65x7.65mm; Datasheet: https://www.analog.com/media/en/technical-documentation/data-sheets/ad7779.pdf; Description_: 8-Channel, 24-bit, Simultaneous Sampling ADC, WQFN-64 (LFCSP-64)
pins: 1 AIN0-, 2 AIN0+, 3 AIN1-, 4 AIN1+, 5 AVSS1A, 6 AVDD1A, 7 REF1-, 8 REF1+, 9 AIN2-, 10 AIN2+, 11 AIN3-, 12 AIN3+, 13 MODE0/GPIO0, 14 MODE1/GPIO1, 15 MODE2/GPIO2, 16 MODE3/ALERT, 17 CONVST_SAR, 18 ALERT/~{{CS}}, 19 DCLK2/SCLK, 20 DCLK1/SDI, 21 DCLK0/SDO, 22 DGND, 23 DREGCAP, 24 IOVDD, 25 DOUT3, 26 DOUT2, 27 DOUT1, 28 DOUT0, 29 DCLK, 30 ~{{DRDY}}, 31 XTAL1, 32 XTAL2/MCLK, 33 ~{{START}}, 34 ~{{SYNC_OUT}}, 35 ~{{SYNC_IN}}, 36 ~{{RESET}}, 37 AIN7+, 38 AIN7-, 39 AIN6+, 40 AIN6-, 41 REF2+, 42 REF2-, 43 AVDD1B, 44 AVSS1B, 45 AIN5+, 46 AIN5-, 47 AIN4+, 48 AIN4-, 49 REF_OUT, 50 AVSS2B, 51 AREG2CAP, 52 AVDD2B, 53 AVSS3, 54 FORMAT1, 55 FORMAT0, 56 CLK_SEL, 57 VCM, 58 AVDD2A, 59 AREG1CAP, 60 AVSS2A, 61 AVSS4, 62 AVDD4, 63 AUXAIN+, 64 AUXAIN-, 65 EPAD(AVSSx)

## AD7794
designator *  value AD7794  Reference: U
24-Bit, 6-Channel Sigma-Delta ADC, TSSOP-28; ki_keywords: adc 6ch 24bit serial; ki_fp_filters: TSSOP*4.4x7.8mm*P0.65mm*; Footprint: Package_SO:TSSOP-24_4.4x7.8mm_P0.65mm; Datasheet: https://www.analog.com/media/en/technical-documentation/data-sheets/AD7794_7795.pdf; Description_: 24-Bit, 6-Channel Sigma-Delta ADC, TSSOP-28
pins: 1 SCLK, 2 CLK, 3 ~{{CS}}, 4 NC, 5 AIN6+/P1, 6 AIN6-/P2, 7 AIN1+, 8 AIN1-, 9 AIN2+, 10 AIN2-, 11 AIN3+, 12 AIN3-, 13 REFIN1+, 14 REFIN1-, 15 AIN5+/IOUT2, 16 AIN5-/IOUT1, 17 AIN4+/REFIN2+, 18 AIN4-/REFIN2-, 19 PSW, 20 GND, 21 AVDD, 22 DVDD, 23 DOUT/~{{RDY}}, 24 DIN

## AD7795
designator *  value AD7795  Reference: U
16-Bit, 6-Channel Sigma-Delta ADC, TSSOP-28; ki_keywords: adc 6ch 16bit serial; ki_fp_filters: TSSOP*4.4x7.8mm*P0.65mm*; Footprint: Package_SO:TSSOP-24_4.4x7.8mm_P0.65mm; Datasheet: https://www.analog.com/media/en/technical-documentation/data-sheets/AD7794_7795.pdf; Description_: 16-Bit, 6-Channel Sigma-Delta ADC, TSSOP-28
pins: 1 SCLK, 2 CLK, 3 ~{{CS}}, 4 NC, 5 AIN6+/P1, 6 AIN6-/P2, 7 AIN1+, 8 AIN1-, 9 AIN2+, 10 AIN2-, 11 AIN3+, 12 AIN3-, 13 REFIN1+, 14 REFIN1-, 15 AIN5+/IOUT2, 16 AIN5-/IOUT1, 17 AIN4+/REFIN2+, 18 AIN4-/REFIN2-, 19 PSW, 20 GND, 21 AVDD, 22 DVDD, 23 DOUT/~{{RDY}}, 24 DIN

## AD7819
designator *  value AD7819  Reference: U
Analog to Digital 8 bits converter, PDIP/SOIC/TSSOP-16; ki_keywords: CAD; Datasheet: https://www.analog.com/media/en/technical-documentation/data-sheets/AD7819.pdf; Description_: Analog to Digital 8 bits converter, PDIP/SOIC/TSSOP-16
pins: 1 VREF, 2 Vin, 3 GND, 4 START, 5 CS, 6 OE, 7 EOC, 8 DB0, 9 DB1, 10 DB2, 11 DB3, 12 DB4, 13 DB5, 14 DB6, 15 DB7, 16 VCC

## AD7949BCP
designator *  value AD7949BCP  Reference: U
14-Bit, 8-Channel, 250 kSPS PulSAR ADC, LFSCP-20; ki_keywords: ADC, SPI; ki_fp_filters: LFCSP*1EP*4x4mm*P0.5mm*; Footprint: Package_CSP:LFCSP-20-1EP_4x4mm_P0.5mm_EP2.5x2.5mm; Datasheet: https://www.analog.com/media/en/technical-documentation/data-sheets/AD7949.pdf; Description_: 14-Bit, 8-Channel, 250 kSPS PulSAR ADC, LFSCP-20
pins: 1 VDD, 2 REF, 3 REFIN, 4 GND, 5 GND, 6 IN4, 7 IN5, 8 IN6, 9 IN7, 10 COM, 11 CNV, 12 DIN, 13 SCK, 14 SDO, 15 VIO, 16 IN0, 17 IN1, 18 IN2, 19 IN3, 20 VDD, 21 EPAD

## AD9280ARS
designator *  value AD9280ARS  Reference: U
Video ADC (32 Mhz), SSOP-28; ki_keywords: ADC CAN VIDEO; Datasheet: https://www.analog.com/media/en/technical-documentation/data-sheets/AD9280.pdf; Description_: Video ADC (32 Mhz), SSOP-28
pins: 1 AVSS, 2 DRVDD, 5 D0, 6 D1, 7 D2, 8 D3, 9 D4, 10 D5, 11 D6, 12 D7, 13 OTR, 14 DRVSS, 15 CLK, 16 THREE-STATE, 17 STBY, 18 REFSENSE, 19 CLAMP, 20 CLAMPIN, 21 REFTS, 22 REFTF, 23 MODE, 24 REFBF, 25 REFBS, 26 VREF, 27 AIN, 28 AVDD

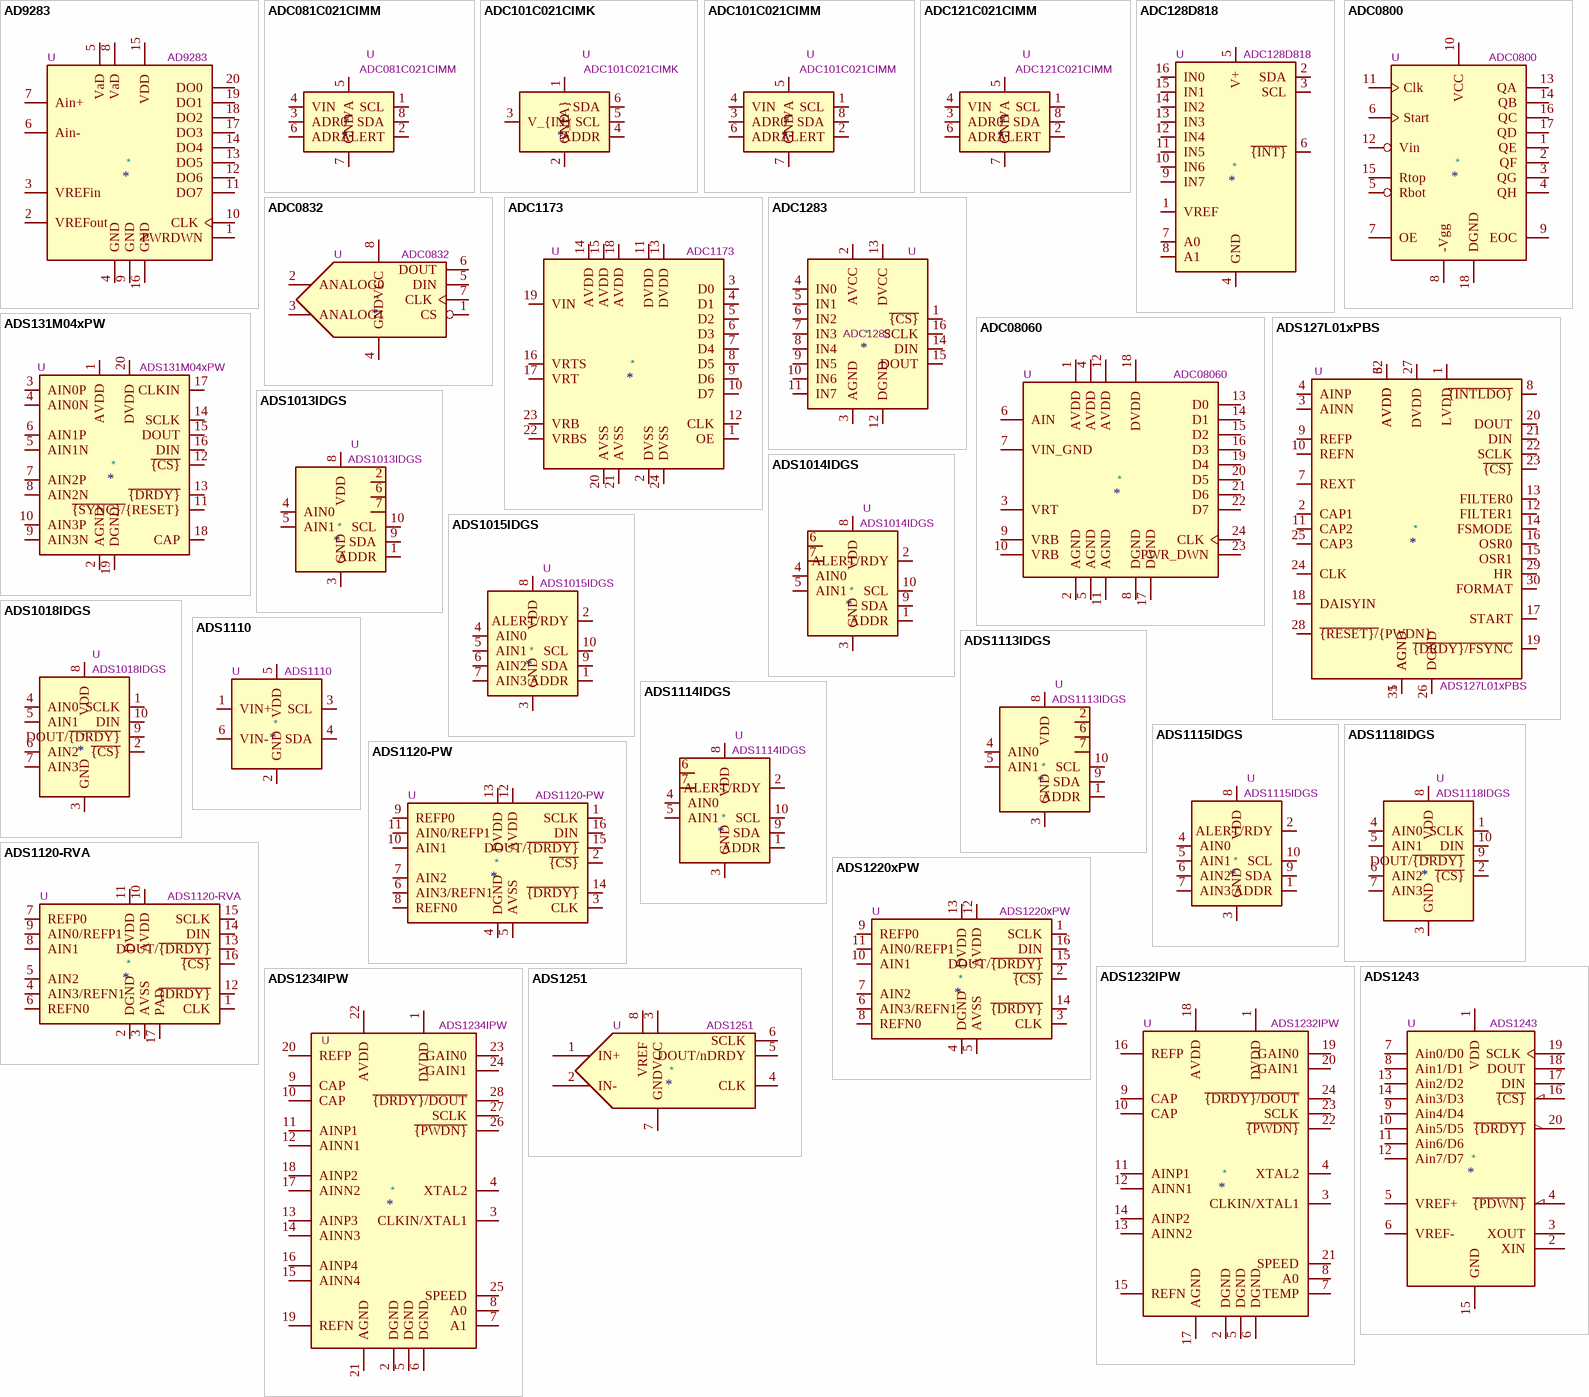
[diagram p2: symbols AD9283 to ADS1251]

## AD9283
designator *  value AD9283  Reference: U
ADC 50MHz 8 bits, SSOP-20; Datasheet: https://www.analog.com/media/en/technical-documentation/data-sheets/AD9283.pdf; Description_: ADC 50MHz 8 bits, SSOP-20; ki_keywords: ADC
pins: 1 PWRDWN, 2 VREFout, 3 VREFin, 4 GND, 5 VaD, 6 Ain-, 7 Ain+, 8 VaD, 9 GND, 10 CLK, 11 DO7, 12 DO6, 13 DO5, 14 DO4, 15 VDD, 16 GND, 17 DO3, 18 DO2, 19 DO1, 20 DO0

## ADC081C021CIMM
designator *  value ADC081C021CIMM  Reference: U
I2C-Compatible, 8-Bit Analog-to-Digital Converter with Alert Function, MSOP-8; ki_keywords: ADC I2C 8-bit Alert; ki_fp_filters: MSOP*3x3mm*P0.65mm*; Footprint: Package_SO:MSOP-8_3x3mm_P0.65mm; Datasheet: http://www.ti.com/lit/ds/symlink/adc081c021.pdf; Description_: I2C-Compatible, 8-Bit Analog-to-Digital Converter with Alert Function, MSOP-8
pins: 1 SCL, 2 ALERT, 3 ADR0, 4 VIN, 5 VA, 6 ADR1, 7 GND, 8 SDA

## ADC101C021CIMK
designator *  value ADC101C021CIMK  Reference: U
10-bit I2C ADC, SOT-23; ki_keywords: adc 10-bit i2c; ki_fp_filters: SOT?23*; Footprint: Package_TO_SOT_SMD:SOT-23-6; Datasheet: https://www.ti.com/lit/ds/symlink/adc101c021.pdf; Description_: 10-bit I2C ADC, SOT-23
pins: 1 V_{A}, 2 GND, 3 V_{IN}, 4 ADDR, 5 SCL, 6 SDA

## ADC101C021CIMM
designator *  value ADC101C021CIMM  Reference: U
I2C-Compatible, 10-Bit Analog-to-Digital Converter with Alert Function, MSOP-8; ki_keywords: ADC I2C 10-bit Alert; ki_fp_filters: MSOP*3x3mm*P0.65mm*; Footprint: Package_SO:MSOP-8_3x3mm_P0.65mm; Datasheet: http://www.ti.com/lit/ds/symlink/adc101c021.pdf; Description_: I2C-Compatible, 10-Bit Analog-to-Digital Converter with Alert Function, MSOP-8
pins: 1 SCL, 2 ALERT, 3 ADR0, 4 VIN, 5 VA, 6 ADR1, 7 GND, 8 SDA

## ADC121C021CIMM
designator *  value ADC121C021CIMM  Reference: U
I2C-Compatible, 12-Bit Analog-to-Digital Converter with Alert Function, MSOP-8; ki_keywords: ADC I2C 12-bit Alert; ki_fp_filters: MSOP*3x3mm*P0.65mm*; Footprint: Package_SO:MSOP-8_3x3mm_P0.65mm; Datasheet: http://www.ti.com/lit/ds/symlink/adc121c021.pdf; Description_: I2C-Compatible, 12-Bit Analog-to-Digital Converter with Alert Function, MSOP-8
pins: 1 SCL, 2 ALERT, 3 ADR0, 4 VIN, 5 VA, 6 ADR1, 7 GND, 8 SDA

## ADC128D818
designator *  value ADC128D818  Reference: U
12-Bit, 8-Channel, ADC System Monitor With Temperature Sensor, I2C Interface, TSSOP-16; ki_keywords: ADC 8 Channels TSSOP I2C; ki_fp_filters: TSSOP*4.4x5mm*P0.65mm*; Footprint: Package_SO:TSSOP-16_4.4x5mm_P0.65mm; Datasheet: http://www.ti.com/lit/ds/symlink/adc128d818.pdf; Description_: 12-Bit, 8-Channel, ADC System Monitor With Temperature Sensor, I2C Interface, TSSOP-16
pins: 1 VREF, 2 SDA, 3 SCL, 4 GND, 5 V+, 6 ~{{INT}}, 7 A0, 8 A1, 9 IN7, 10 IN6, 11 IN5, 12 IN4, 13 IN3, 14 IN2, 15 IN1, 16 IN0

## ADC0800
designator *  value ADC0800  Reference: U
Analog to Digital 8 bits converter, DIP-18 (Hermetic); ki_keywords: CAD; Datasheet: http://www.ti.com/lit/ds/snas562/snas562.pdf; Description_: Analog to Digital 8 bits converter, DIP-18 (Hermetic)
pins: 1 QE, 2 QF, 3 QG, 4 QH, 5 Rbot, 6 Start, 7 OE, 8 -Vgg, 9 EOC, 10 VCC, 11 Clk, 12 Vin, 13 QA, 14 QB, 15 Rtop, 16 QC, 17 QD, 18 DGND

## ADC0832
designator *  value ADC0832  Reference: U
2 inputs AD Converter (serial output),; ki_keywords: ADC CAN; Datasheet: http://www.ti.com/lit/ds/symlink/adc0831-n.pdf; Description_: 2 inputs AD Converter (serial output),
pins: 1 CS, 2 ANALOG0, 3 ANALOG1, 4 GND, 5 DIN, 6 DOUT, 7 CLK, 8 VCC

## ADC1173
designator *  value ADC1173  Reference: U
Fast ADC  (15 Mhz), TSSOP-24; ki_keywords: ADC CAN VIDEO; Datasheet: http://www.ti.com/lit/ds/symlink/adc1173.pdf; Description_: Fast ADC  (15 Mhz), TSSOP-24
pins: 1 OE, 2 DVSS, 3 D0, 4 D1, 5 D2, 6 D3, 7 D4, 8 D5, 9 D6, 10 D7, 11 DVDD, 12 CLK, 13 DVDD, 14 AVDD, 15 AVDD, 16 VRTS, 17 VRT, 18 AVDD, 19 VIN, 20 AVSS, 21 AVSS, 22 VRBS, 23 VRB, 24 DVSS

## ADC1283
designator *  value ADC1283  Reference: U
Low power 8-channel single ended 12-bit SAR ADC, 50 ksps to 200 ksps, SPI, TSSOP-16; ki_keywords: ADC 2.7V 3.3V 5.5V SPI 12bit 8-channel; ki_fp_filters: TSSOP*4.4x5mm*P0.65mm*; Footprint: Package_SO:TSSOP-16_4.4x5mm_P0.65mm; Datasheet: https://www.st.com/resource/en/datasheet/adc1283.pdf; Description_: Low power 8-channel single ended 12-bit SAR ADC, 50 ksps to 200 ksps, SPI, TSSOP-16
pins: 1 ~{{CS}}, 2 AVCC, 3 AGND, 4 IN0, 5 IN1, 6 IN2, 7 IN3, 8 IN4, 9 IN5, 10 IN6, 11 IN7, 12 DGND, 13 DVCC, 14 DIN, 15 DOUT, 16 SCLK

## ADC08060
designator *  value ADC08060  Reference: U
Fast ADC  (20 .. 60 Mhz), TSSOP-24; ki_keywords: ADC CAN VIDEO; Datasheet: http://www.ti.com/lit/ds/symlink/adc08060.pdf; Description_: Fast ADC  (20 .. 60 Mhz), TSSOP-24
pins: 1 AVDD, 2 AGND, 3 VRT, 4 AVDD, 5 AGND, 6 AIN, 7 VIN_GND, 8 DGND, 9 VRB, 10 VRB, 11 AGND, 12 AVDD, 13 D0, 14 D1, 15 D2, 16 D3, 17 DGND, 18 DVDD, 19 D4, 20 D5, 21 D6, 22 D7, 23 PWR_DWN, 24 CLK

## ADS127L01xPBS
designator *  value ADS127L01xPBS  Reference: U
24-bit delta-sigma ADC, Single Channel, 512 kSPS, SPI & Frame-Sync interface, TQFP-32; ki_keywords: Texas-Instruments high-speed 24bit ADS127L01IPBS; ki_fp_filters: *TQFP*5x5mm*P0.5mm*; Footprint: Package_QFP:TQFP-32_5x5mm_P0.5mm; Datasheet: https://www.ti.com/lit/ds/symlink/ads127l01.pdf; Description_: 24-bit delta-sigma ADC, Single Channel, 512 kSPS, SPI & Frame-Sync interface, TQFP-32
pins: 1 LVDD, 2 CAP1, 3 AINN, 4 AINP, 5 AGND, 6 AVDD, 7 REXT, 8 ~{{INTLDO}}, 9 REFP, 10 REFN, 11 CAP2, 12 FILTER1, 13 FILTER0, 14 FSMODE, 15 OSR1, 16 OSR0, 17 START, 18 DAISYIN, 19 ~{{DRDY}/FSYNC}, 20 DOUT, 21 DIN, 22 SCLK, 23 ~{{CS}}, 24 CLK, 25 CAP3, 26 DGND, 27 DVDD, 28 ~{{RESET}/}{PWDN}, 29 HR, 30 FORMAT, 31 AGND, 32 AVDD

## ADS131M04xPW
designator *  value ADS131M04xPW  Reference: U
4-Channel, 24-bit, simultaneous sampling Delta-Sigma ADC, 64kSPS, G=1..128 PGA, SPI interface, integrated 1.2V reference, TSSOP-20; ki_keywords: Texas-Instruments quad analog-digital converter low-power; ki_fp_filters: TSSOP*4.4x6.5mm*P0.65mm*; Footprint: Package_SO:TSSOP-20_4.4x6.5mm_P0.65mm; Datasheet: https://www.ti.com/lit/ds/symlink/ads131m04.pdf; Description_: 4-Channel, 24-bit, simultaneous sampling Delta-Sigma ADC, 64kSPS, G=1..128 PGA, SPI interface, integrated 1.2V reference, TSSOP-20
pins: 1 AVDD, 2 AGND, 3 AIN0P, 4 AIN0N, 5 AIN1N, 6 AIN1P, 7 AIN2P, 8 AIN2N, 9 AIN3N, 10 AIN3P, 11 ~{{SYNC}/}{RESET}, 12 ~{{CS}}, 13 ~{{DRDY}}, 14 SCLK, 15 DOUT, 16 DIN, 17 CLKIN, 18 CAP, 19 DGND, 20 DVDD

## ADS1013IDGS
designator *  value ADS1013IDGS  Reference: U
Ultra-Small, Low-Power, I2C-Compatible, 3.3-kSPS, 12-Bit ADCs With Internal Reference and Oscillator, VSSOP-10; ki_keywords: 12 bit single channel I2C ADC; ki_fp_filters: TSSOP*3x3mm*P0.5mm*; Footprint: Package_SO:TSSOP-10_3x3mm_P0.5mm; Datasheet: http://www.ti.com/lit/ds/symlink/ads1015.pdf; Description_: Ultra-Small, Low-Power, I2C-Compatible, 3.3-kSPS, 12-Bit ADCs With Internal Reference and Oscillator, VSSOP-10
pins: 1 ADDR, 2, 3 GND, 4 AIN0, 5 AIN1, 6, 7, 8 VDD, 9 SDA, 10 SCL

## ADS1014IDGS
designator *  value ADS1014IDGS  Reference: U
Ultra-Small, Low-Power, I2C-Compatible, 3.3-kSPS, 12-Bit ADCs With Internal Reference, Oscillator, and Programmable Comparator, VSSOP-10; ki_keywords: 12 bit single channel I2C ADC; ki_fp_filters: TSSOP*3x3mm*P0.5mm*; Footprint: Package_SO:TSSOP-10_3x3mm_P0.5mm; Datasheet: http://www.ti.com/lit/ds/symlink/ads1015.pdf; Description_: Ultra-Small, Low-Power, I2C-Compatible, 3.3-kSPS, 12-Bit ADCs With Internal Reference, Oscillator, and Programmable Comparator, VSSOP-10
pins: 1 ADDR, 2 ALERT/RDY, 3 GND, 4 AIN0, 5 AIN1, 6, 7, 8 VDD, 9 SDA, 10 SCL

## ADS1015IDGS
designator *  value ADS1015IDGS  Reference: U
Ultra-Small, Low-Power, I2C-Compatible, 3.3-kSPS, 12-Bit ADCs With Internal Reference, Oscillator, and Programmable Comparator, VSSOP-10; ki_keywords: 12 bit 4 channel I2C ADC; ki_fp_filters: TSSOP*3x3mm*P0.5mm*; Footprint: Package_SO:TSSOP-10_3x3mm_P0.5mm; Datasheet: http://www.ti.com/lit/ds/symlink/ads1015.pdf; Description_: Ultra-Small, Low-Power, I2C-Compatible, 3.3-kSPS, 12-Bit ADCs With Internal Reference, Oscillator, and Programmable Comparator, VSSOP-10
pins: 1 ADDR, 2 ALERT/RDY, 3 GND, 4 AIN0, 5 AIN1, 6 AIN2, 7 AIN3, 8 VDD, 9 SDA, 10 SCL

## ADS1018IDGS
designator *  value ADS1018IDGS  Reference: U
Ultrasmall, Low-Power, SPI-Compatible, 12-Bit, Analog-to-Digital Converter With Internal Reference and Temperature Sensor, VSSOP-10; ki_keywords: 12 bit 4 channel SPI ADC; ki_fp_filters: TSSOP*3x3mm*P0.5mm*; Datasheet: http://www.ti.com/lit/ds/symlink/ads1018.pdf; Description_: Ultrasmall, Low-Power, SPI-Compatible, 12-Bit, Analog-to-Digital Converter With Internal Reference and Temperature Sensor, VSSOP-10
pins: 1 SCLK, 2 ~{{CS}}, 3 GND, 4 AIN0, 5 AIN1, 6 AIN2, 7 AIN3, 8 VDD, 9 DOUT/~{{DRDY}}, 10 DIN

## ADS1110
designator *  value ADS1110  Reference: U
16 Bit Analog to Digital converter with on board reference; ki_keywords: 16 Bit Analog to digital converter ADC; ki_fp_filters: SOT?23*; Footprint: Package_TO_SOT_SMD:SOT-23-6; Datasheet: http://www.ti.com/lit/ds/symlink/ads1110.pdf; Description_: 16 Bit Analog to Digital converter with on board reference
pins: 1 VIN+, 2 GND, 3 SCL, 4 SDA, 5 VDD, 6 VIN-

## ADS1113IDGS
designator *  value ADS1113IDGS  Reference: U
Ultra-Small, Low-Power, I2C-Compatible, 860-SPS, 16-Bit ADCs With Internal Reference and Oscillator, VSSOP-10; ki_keywords: 16 bit single channel I2C ADC; ki_fp_filters: TSSOP*3x3mm*P0.5mm*; Footprint: Package_SO:TSSOP-10_3x3mm_P0.5mm; Datasheet: http://www.ti.com/lit/ds/symlink/ads1113.pdf; Description_: Ultra-Small, Low-Power, I2C-Compatible, 860-SPS, 16-Bit ADCs With Internal Reference and Oscillator, VSSOP-10
pins: 1 ADDR, 2, 3 GND, 4 AIN0, 5 AIN1, 6, 7, 8 VDD, 9 SDA, 10 SCL

## ADS1114IDGS
designator *  value ADS1114IDGS  Reference: U
Ultra-Small, Low-Power, I2C-Compatible, 860-SPS, 16-Bit ADCs With Internal Reference, Oscillator, and Programmable Comparator, VSSOP-10; ki_keywords: 16 bit single channel I2C ADC; ki_fp_filters: TSSOP*3x3mm*P0.5mm*; Footprint: Package_SO:TSSOP-10_3x3mm_P0.5mm; Datasheet: http://www.ti.com/lit/ds/symlink/ads1113.pdf; Description_: Ultra-Small, Low-Power, I2C-Compatible, 860-SPS, 16-Bit ADCs With Internal Reference, Oscillator, and Programmable Comparator, VSSOP-10
pins: 1 ADDR, 2 ALERT/RDY, 3 GND, 4 AIN0, 5 AIN1, 6, 7, 8 VDD, 9 SDA, 10 SCL

## ADS1115IDGS
designator *  value ADS1115IDGS  Reference: U
Ultra-Small, Low-Power, I2C-Compatible, 860-SPS, 16-Bit ADCs With Internal Reference, Oscillator, and Programmable Comparator, VSSOP-10; ki_keywords: 16 bit 4 channel I2C ADC; ki_fp_filters: TSSOP*3x3mm*P0.5mm*; Footprint: Package_SO:TSSOP-10_3x3mm_P0.5mm; Datasheet: http://www.ti.com/lit/ds/symlink/ads1113.pdf; Description_: Ultra-Small, Low-Power, I2C-Compatible, 860-SPS, 16-Bit ADCs With Internal Reference, Oscillator, and Programmable Comparator, VSSOP-10
pins: 1 ADDR, 2 ALERT/RDY, 3 GND, 4 AIN0, 5 AIN1, 6 AIN2, 7 AIN3, 8 VDD, 9 SDA, 10 SCL

## ADS1118IDGS
designator *  value ADS1118IDGS  Reference: U
Ultrasmall, Low-Power, SPI-Compatible, 16-Bit Analog-to-Digital Converter with Internal Reference and Temperature Sensor, VSSOP-10; ki_keywords: 16 bit 4 channel SPI ADC; ki_fp_filters: TSSOP*3x3mm*P0.5mm*; Datasheet: http://www.ti.com/lit/ds/symlink/ads1118.pdf; Description_: Ultrasmall, Low-Power, SPI-Compatible, 16-Bit Analog-to-Digital Converter with Internal Reference and Temperature Sensor, VSSOP-10
pins: 1 SCLK, 2 ~{{CS}}, 3 GND, 4 AIN0, 5 AIN1, 6 AIN2, 7 AIN3, 8 VDD, 9 DOUT/~{{DRDY}}, 10 DIN

## ADS1120-PW
designator *  value ADS1120-PW  Reference: U
Low-power, quad-input, 16-bit analog to digital converter, integrated temperature sensor, SPI interface, TSSOP-16 package; ki_keywords: adc spi; ki_fp_filters: *TSSOP*4.4x5mm*P0.65mm*; Footprint: Package_SO:TSSOP-16_4.4x5mm_P0.65mm; Datasheet: http://www.ti.com/lit/ds/symlink/ads1120.pdf; Description_: Low-power, quad-input, 16-bit analog to digital converter, integrated temperature sensor, SPI interface, TSSOP-16 package
pins: 1 SCLK, 2 ~{{CS}}, 3 CLK, 4 DGND, 5 AVSS, 6 AIN3/REFN1, 7 AIN2, 8 REFN0, 9 REFP0, 10 AIN1, 11 AIN0/REFP1, 12 AVDD, 13 DVDD, 14 ~{{DRDY}}, 15 DOUT/~{{DRDY}}, 16 DIN

## ADS1120-RVA
designator *  value ADS1120-RVA  Reference: U
Low-power, quad-input, 16-bit analog to digital converter, integrated temperature sensor, SPI interface, QFN-16 package; ki_keywords: adc spi; ki_fp_filters: QFN*3.5x3.5mm*P0.50mm*; Datasheet: http://www.ti.com/lit/ds/symlink/ads1120.pdf; Description_: Low-power, quad-input, 16-bit analog to digital converter, integrated temperature sensor, SPI interface, QFN-16 package
pins: 1 CLK, 2 DGND, 3 AVSS, 4 AIN3/REFN1, 5 AIN2, 6 REFN0, 7 REFP0, 8 AIN1, 9 AIN0/REFP1, 10 AVDD, 11 DVDD, 12 ~{{DRDY}}, 13 DOUT/~{{DRDY}}, 14 DIN, 15 SCLK, 16 ~{{CS}}, 17 PAD

## ADS1220xPW
designator *  value ADS1220xPW  Reference: U
Low-power, quad-input, 24-bit analog to digital converter, integrated temperature sensor, SPI interface, TSSOP-16 package; ki_keywords: adc spi; ki_fp_filters: *TSSOP*4.4x5mm*P0.65mm*; Footprint: Package_SO:TSSOP-16_4.4x5mm_P0.65mm; Datasheet: http://www.ti.com/lit/ds/symlink/ads1220.pdf; Description_: Low-power, quad-input, 24-bit analog to digital converter, integrated temperature sensor, SPI interface, TSSOP-16 package
pins: 1 SCLK, 2 ~{{CS}}, 3 CLK, 4 DGND, 5 AVSS, 6 AIN3/REFN1, 7 AIN2, 8 REFN0, 9 REFP0, 10 AIN1, 11 AIN0/REFP1, 12 AVDD, 13 DVDD, 14 ~{{DRDY}}, 15 DOUT/~{{DRDY}}, 16 DIN

## ADS1232IPW
designator *  value ADS1232IPW  Reference: U
Single Bridge 24bit ADC for Sensors, TSSOP-24; ki_keywords: ADC 24bit Sensors Dual Channel; ki_fp_filters: TSSOP*; Datasheet: http://www.ti.com/lit/ds/symlink/ads1232.pdf; Description_: Single Bridge 24bit ADC for Sensors, TSSOP-24
pins: 1 DVDD, 2 DGND, 3 CLKIN/XTAL1, 4 XTAL2, 5 DGND, 6 DGND, 7 TEMP, 8 A0, 9 CAP, 10 CAP, 11 AINP1, 12 AINN1, 13 AINN2, 14 AINP2, 15 REFN, 16 REFP, 17 AGND, 18 AVDD, 19 GAIN0, 20 GAIN1, 21 SPEED, 22 ~{{PWDN}}, 23 SCLK, 24 ~{{DRDY}/DOUT}

## ADS1234IPW
designator *  value ADS1234IPW  Reference: U
Dual Bridge 24bit ADC for Sensors, TSSOP-28; ki_keywords: ADC 24bit Sensors Quad Channel; ki_fp_filters: TSSOP*; Datasheet: http://www.ti.com/lit/ds/symlink/ads1232.pdf; Description_: Dual Bridge 24bit ADC for Sensors, TSSOP-28
pins: 1 DVDD, 2 DGND, 3 CLKIN/XTAL1, 4 XTAL2, 5 DGND, 6 DGND, 7 A1, 8 A0, 9 CAP, 10 CAP, 11 AINP1, 12 AINN1, 13 AINP3, 14 AINN3, 15 AINN4, 16 AINP4, 17 AINN2, 18 AINP2, 19 REFN, 20 REFP, 21 AGND, 22 AVDD, 23 GAIN0, 24 GAIN1, 25 SPEED, 26 ~{{PWDN}}, 27 SCLK, 28 ~{{DRDY}/DOUT}

## ADS1243
designator *  value ADS1243  Reference: U
24-bit ADC, 8 Channels, SPI compatible, PGA 1 to 128, TSSOP-20; ki_keywords: 24bit ADC 8 Channels PGA SPI; ki_fp_filters: TSSOP*4.4x6.5mm*P0.65mm*; Footprint: Package_SO:TSSOP-20_4.4x6.5mm_P0.65mm; Datasheet: http://www.ti.com/lit/ds/symlink/ads1243.pdf; Description_: 24-bit ADC, 8 Channels, SPI compatible, PGA 1 to 128, TSSOP-20
pins: 1 VDD, 2 XIN, 3 XOUT, 4 ~{{PDWN}}, 5 VREF+, 6 VREF-, 7 Ain0/D0, 8 Ain1/D1, 9 Ain4/D4, 10 Ain5/D5, 11 Ain6/D6, 12 Ain7/D7, 13 Ain2/D2, 14 Ain3/D3, 15 GND, 16 ~{{CS}}, 17 DIN, 18 DOUT, 19 SCLK, 20 ~{{DRDY}}

## ADS1251
designator *  value ADS1251  Reference: U
Single channel 24-bit Analog to Digital Converter, 5V supply, differential input, 20kHz, 2-wire serial interface, SOIC-8; ki_keywords: delta-sigma adc low-power; ki_fp_filters: SOIC*; Footprint: Package_SO:SOIC-8_3.9x4.9mm_P1.27mm; Datasheet: http://www.ti.com/lit/ds/symlink/ads1251.pdf; Description_: Single channel 24-bit Analog to Digital Converter, 5V supply, differential input, 20kHz, 2-wire serial interface, SOIC-8
pins: 1 IN+, 2 IN-, 3 VCC, 4 CLK, 5 DOUT/nDRDY, 6 SCLK, 7 GND, 8 VREF

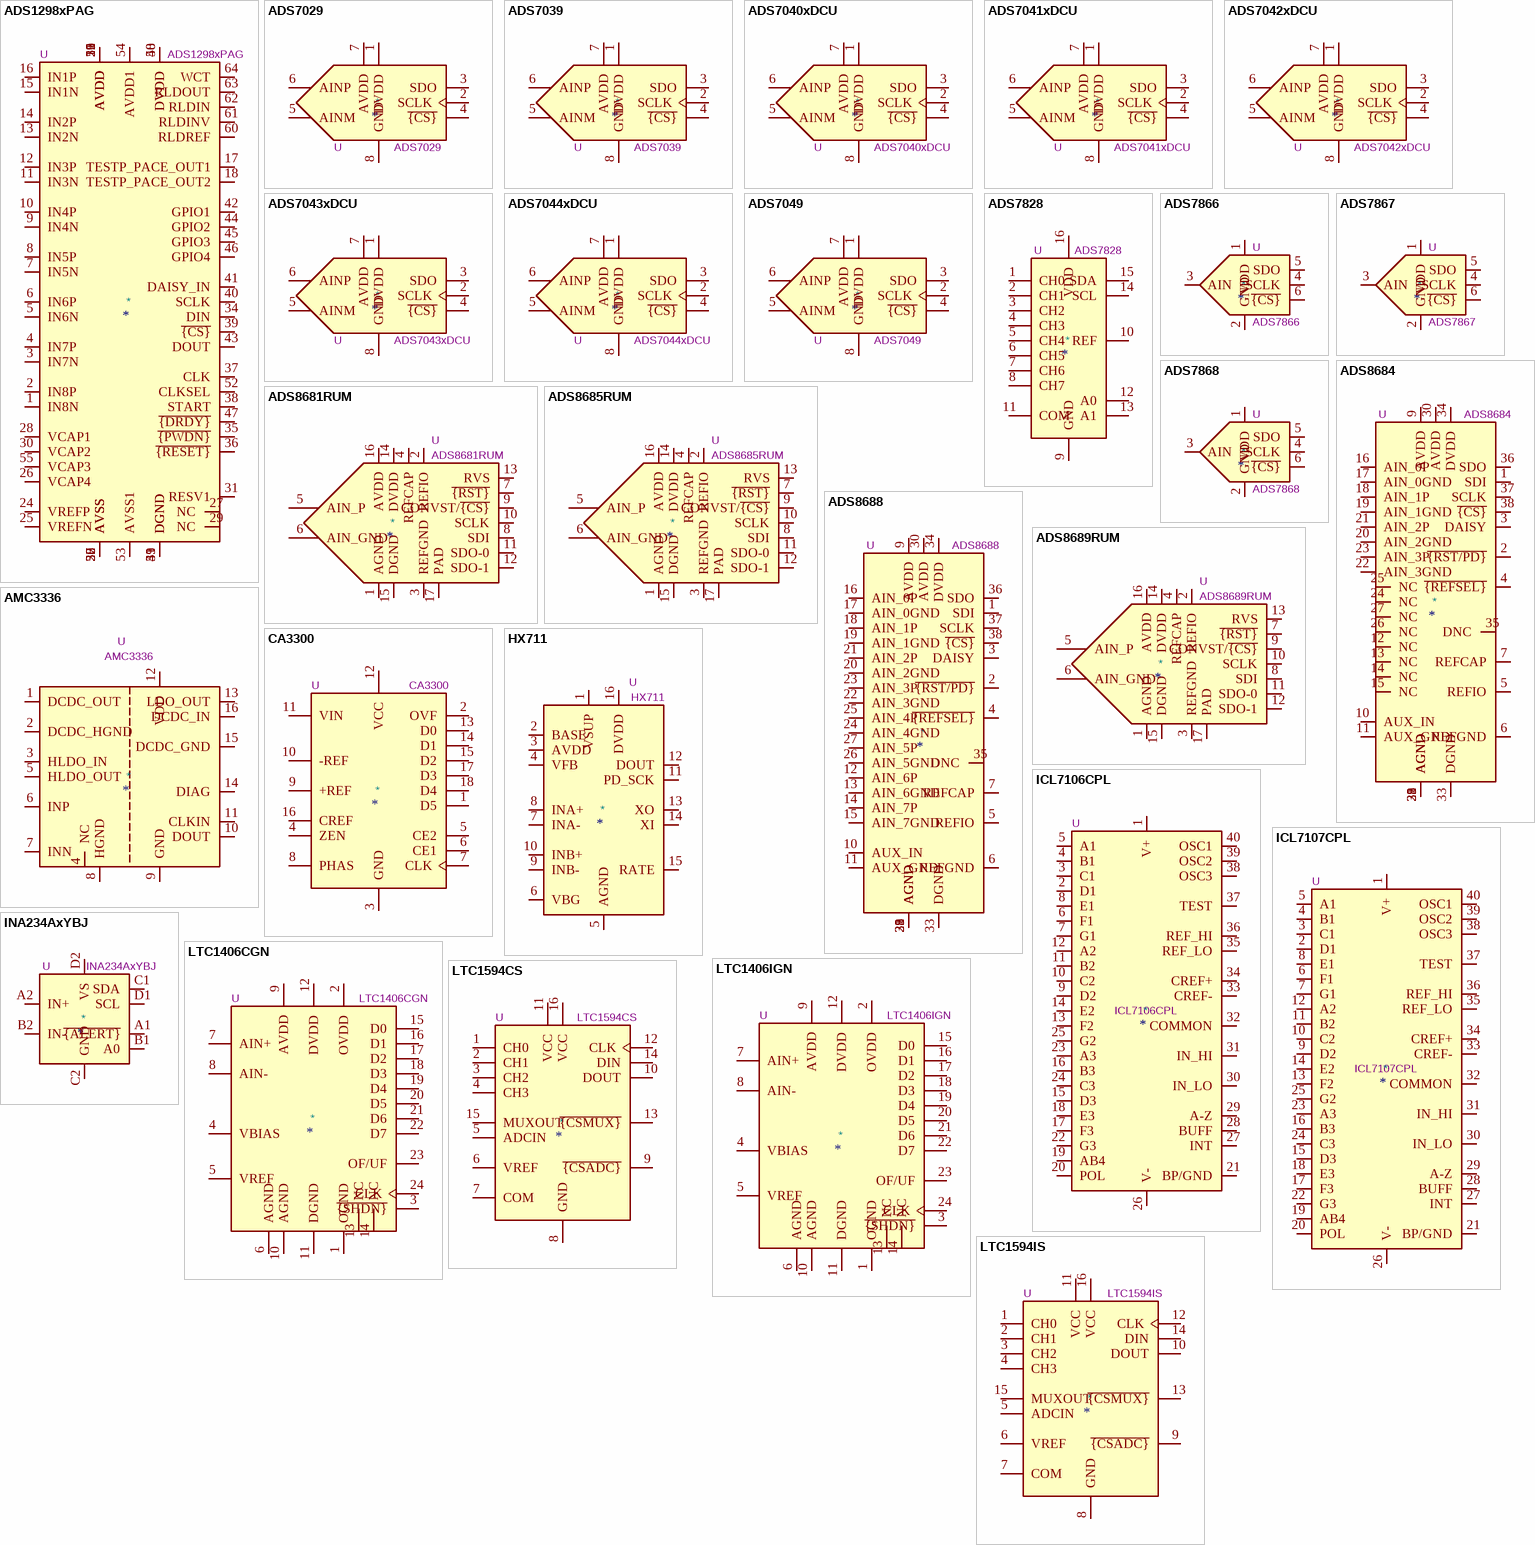
[diagram p3: symbols ADS1298xPAG to LTC1594IS]

## ADS1298xPAG
designator *  value ADS1298xPAG  Reference: U
ADS1298 Low-Power, 8-Channel, 24-Bit Analog Front-End for Biopotential Measurements, TQFP-64; ki_keywords: 24bit ADC PGA SPI; ki_fp_filters: TQFP*10x10mm*P0.5mm*; Footprint: Package_QFP:TQFP-64_10x10mm_P0.5mm; Datasheet: http://www.ti.com/lit/ds/symlink/ads1298.pdf; Description_: ADS1298 Low-Power, 8-Channel, 24-Bit Analog Front-End for Biopotential Measurements, TQFP-64
pins: 1 IN8N, 2 IN8P, 3 IN7N, 4 IN7P, 5 IN6N, 6 IN6P, 7 IN5N, 8 IN5P, 9 IN4N, 10 IN4P, 11 IN3N, 12 IN3P, 13 IN2N, 14 IN2P, 15 IN1N, 16 IN1P, 17 TESTP_PACE_OUT1, 18 TESTP_PACE_OUT2, 19 AVDD, 20 AVSS, 21 AVDD, 22 AVDD, 23 AVSS, 24 VREFP, 25 VREFN, 26 VCAP4, 27 NC, 28 VCAP1, 29 NC, 30 VCAP2, 31 RESV1, 32 AVSS, 33 DGND, 34 DIN, 35 ~{{PWDN}}, 36 ~{{RESET}}, 37 CLK, 38 START, 39 ~{{CS}}, 40 SCLK, 41 DAISY_IN, 42 GPIO1, 43 DOUT, 44 GPIO2, 45 GPIO3, 46 GPIO4, 47 ~{{DRDY}}, 48 DVDD, 49 DGND, 50 DVDD, 51 DGND, 52 CLKSEL, 53 AVSS1, 54 AVDD1, 55 VCAP3, 56 AVDD, 57 AVSS, 58 AVSS, 59 AVDD, 60 RLDREF, 61 RLDINV, 62 RLDIN, 63 RLDOUT, 64 WCT

## ADS7029
designator *  value ADS7029  Reference: U
Small-Size, Low-Power, 8-Bit, 2-MSPS, SAR ADC; ki_keywords: 8 bit SAR ADC; ki_fp_filters: VSSOP*8*2.3x2mm*P0.5mm*; Footprint: Package_SO:VSSOP-8_2.3x2mm_P0.5mm; Datasheet: http://www.ti.com/lit/ds/symlink/ads7029-q1.pdf; Description_: Small-Size, Low-Power, 8-Bit, 2-MSPS, SAR ADC
pins: 1 DVDD, 2 SCLK, 3 SDO, 4 ~{{CS}}, 5 AINM, 6 AINP, 7 AVDD, 8 GND

## ADS7039
designator *  value ADS7039  Reference: U
Small-Size, Low-Power, 10-Bit, 2-MSPS, SAR ADC; ki_keywords: 10 bit SAR ADC; ki_fp_filters: VSSOP*8*2.3x2mm*P0.5mm*; Footprint: Package_SO:VSSOP-8_2.3x2mm_P0.5mm; Datasheet: http://www.ti.com/lit/ds/symlink/ads7039-q1.pdf; Description_: Small-Size, Low-Power, 10-Bit, 2-MSPS, SAR ADC
pins: 1 DVDD, 2 SCLK, 3 SDO, 4 ~{{CS}}, 5 AINM, 6 AINP, 7 AVDD, 8 GND

## ADS7040xDCU
designator *  value ADS7040xDCU  Reference: U
Ultra-Low Power, Ultra-Small Size, 8-Bit, 1-MSPS, SAR ADC; ki_keywords: 8 bit SAR ADC; ki_fp_filters: VSSOP*8*2.3x2mm*P0.5mm*; Footprint: Package_SO:VSSOP-8_2.3x2mm_P0.5mm; Datasheet: http://www.ti.com/lit/ds/symlink/ads7040.pdf; Description_: Ultra-Low Power, Ultra-Small Size, 8-Bit, 1-MSPS, SAR ADC
pins: 1 DVDD, 2 SCLK, 3 SDO, 4 ~{{CS}}, 5 AINM, 6 AINP, 7 AVDD, 8 GND

## ADS7041xDCU
designator *  value ADS7041xDCU  Reference: U
Ultra-Low Power, Ultra-Small Size, 10-Bit, 1-MSPS, SAR ADC; ki_keywords: 10 bit SAR ADC; ki_fp_filters: VSSOP*8*2.3x2mm*P0.5mm*; Footprint: Package_SO:VSSOP-8_2.3x2mm_P0.5mm; Datasheet: http://www.ti.com/lit/ds/symlink/ads7041.pdf; Description_: Ultra-Low Power, Ultra-Small Size, 10-Bit, 1-MSPS, SAR ADC
pins: 1 DVDD, 2 SCLK, 3 SDO, 4 ~{{CS}}, 5 AINM, 6 AINP, 7 AVDD, 8 GND

## ADS7042xDCU
designator *  value ADS7042xDCU  Reference: U
Ultra-Low Power, Ultra-Small Size, 12-Bit, 1-MSPS, SAR ADC; ki_keywords: 12 bit SAR ADC; ki_fp_filters: VSSOP*8*2.3x2mm*P0.5mm*; Footprint: Package_SO:VSSOP-8_2.3x2mm_P0.5mm; Datasheet: http://www.ti.com/lit/ds/symlink/ads7042.pdf; Description_: Ultra-Low Power, Ultra-Small Size, 12-Bit, 1-MSPS, SAR ADC
pins: 1 DVDD, 2 SCLK, 3 SDO, 4 ~{{CS}}, 5 AINM, 6 AINP, 7 AVDD, 8 GND

## ADS7043xDCU
designator *  value ADS7043xDCU  Reference: U
Ultra-Low Power, Ultra-Small Size, 12-Bit, 1-MSPS, SAR ADC; ki_keywords: 12 bit SAR ADC; ki_fp_filters: VSSOP*8*2.3x2mm*P0.5mm*; Footprint: Package_SO:VSSOP-8_2.3x2mm_P0.5mm; Datasheet: http://www.ti.com/lit/ds/symlink/ads7043.pdf; Description_: Ultra-Low Power, Ultra-Small Size, 12-Bit, 1-MSPS, SAR ADC
pins: 1 DVDD, 2 SCLK, 3 SDO, 4 ~{{CS}}, 5 AINM, 6 AINP, 7 AVDD, 8 GND

## ADS7044xDCU
designator *  value ADS7044xDCU  Reference: U
Ultra-Low Power, Ultra-Small Size, 12-Bit, 1-MSPS, SAR ADC; ki_keywords: 12 bit SAR ADC; ki_fp_filters: VSSOP*8*2.3x2mm*P0.5mm*; Footprint: Package_SO:VSSOP-8_2.3x2mm_P0.5mm; Datasheet: http://www.ti.com/lit/ds/symlink/ads7044.pdf; Description_: Ultra-Low Power, Ultra-Small Size, 12-Bit, 1-MSPS, SAR ADC
pins: 1 DVDD, 2 SCLK, 3 SDO, 4 ~{{CS}}, 5 AINM, 6 AINP, 7 AVDD, 8 GND

## ADS7049
designator *  value ADS7049  Reference: U
Small-Size, Low-Power, 12-Bit, 2-MSPS, SAR ADC; ki_keywords: 12 bit SAR ADC; ki_fp_filters: VSSOP*8*2.3x2mm*P0.5mm*; Footprint: Package_SO:VSSOP-8_2.3x2mm_P0.5mm; Datasheet: http://www.ti.com/lit/ds/symlink/ads7049-q1.pdf; Description_: Small-Size, Low-Power, 12-Bit, 2-MSPS, SAR ADC
pins: 1 DVDD, 2 SCLK, 3 SDO, 4 ~{{CS}}, 5 AINM, 6 AINP, 7 AVDD, 8 GND

## ADS7828
designator *  value ADS7828  Reference: U
12-Bits, 8-Channels, ADC, I2C, TSSOP-16; ki_keywords: I2C ADC 12Bits; ki_fp_filters: TSSOP*4.4x5mm*P0.65mm*; Footprint: Package_SO:TSSOP-16_4.4x5mm_P0.65mm; Datasheet: http://www.ti.com/lit/ds/symlink/ads7828.pdf; Description_: 12-Bits, 8-Channels, ADC, I2C, TSSOP-16
pins: 1 CH0, 2 CH1, 3 CH2, 4 CH3, 5 CH4, 6 CH5, 7 CH6, 8 CH7, 9 GND, 10 REF, 11 COM, 12 A0, 13 A1, 14 SCL, 15 SDA, 16 VDD

## ADS7866
designator *  value ADS7866  Reference: U
Single Channel 12-bit ADC,  100-200ksps, SPI, micro-power, SOT-23-6; ki_fp_filters: *SOT?23?6*; Footprint: Package_TO_SOT_SMD:TSOT-23-6; Datasheet: http://www.ti.com/lit/ds/symlink/ads7866.pdf; Description_: Single Channel 12-bit ADC,  100-200ksps, SPI, micro-power, SOT-23-6; ki_keywords: ADC
pins: 1 VDD, 2 GND, 3 AIN, 4 SCLK, 5 SDO, 6 ~{{CS}}

## ADS7867
designator *  value ADS7867  Reference: U
Single Channel 10-bit ADC,  100-200ksps, SPI, micro-power, SOT-23-6; ki_fp_filters: *SOT?23?6*; Footprint: Package_TO_SOT_SMD:TSOT-23-6; Datasheet: http://www.ti.com/lit/ds/symlink/ads7866.pdf; Description_: Single Channel 10-bit ADC,  100-200ksps, SPI, micro-power, SOT-23-6; ki_keywords: ADC
pins: 1 VDD, 2 GND, 3 AIN, 4 SCLK, 5 SDO, 6 ~{{CS}}

## ADS7868
designator *  value ADS7868  Reference: U
Single Channel 8-bit ADC,  100-200ksps, SPI, micro-power, SOT-23-6; ki_fp_filters: *SOT?23?6*; Footprint: Package_TO_SOT_SMD:TSOT-23-6; Datasheet: http://www.ti.com/lit/ds/symlink/ads7866.pdf; Description_: Single Channel 8-bit ADC,  100-200ksps, SPI, micro-power, SOT-23-6; ki_keywords: ADC
pins: 1 VDD, 2 GND, 3 AIN, 4 SCLK, 5 SDO, 6 ~{{CS}}

## ADS8681RUM
designator *  value ADS8681RUM  Reference: U
16-Bit, High-Speed, Single-Supply, SAR ADC Data Acquisition System with Programmable, Bipolar Input Ranges, 1MSPS, QFN-16; ki_keywords: ADC SPI analog digital; ki_fp_filters: QFN*1EP*4x4mm*P0.65mm*EP2.7x2.7mm*; Footprint: Package_DFN_QFN:QFN-16-1EP_4x4mm_P0.65mm_EP2.7x2.7mm; Datasheet: http://www.ti.com/lit/ds/symlink/ads8681.pdf; Description_: 16-Bit, High-Speed, Single-Supply, SAR ADC Data Acquisition System with Programmable, Bipolar Input Ranges, 1MSPS, QFN-16
pins: 1 AGND, 2 REFIO, 3 REFGND, 4 REFCAP, 5 AIN_P, 6 AIN_GND, 7 ~{{RST}}, 8 SDI, 9 CONVST/~{{CS}}, 10 SCLK, 11 SDO-0, 12 SDO-1, 13 RVS, 14 DVDD, 15 DGND, 16 AVDD, 17 PAD

## ADS8684
designator *  value ADS8684  Reference: U
16-Bit, 500-kSPS, 4-Channels, Single-Supply, SAR ADC with Bipolar Input Range, TSSOP-38; ki_keywords: adc analog digital spi bipolar input; ki_fp_filters: TSSOP*4.4x9.7mm*P0.5mm*; Footprint: Package_SO:TSSOP-38_4.4x9.7mm_P0.5mm; Datasheet: http://www.ti.com/lit/ds/symlink/ads8688.pdf; Description_: 16-Bit, 500-kSPS, 4-Channels, Single-Supply, SAR ADC with Bipolar Input Range, TSSOP-38
pins: 1 SDI, 2 ~{{RST/PD}}, 3 DAISY, 4 ~{{REFSEL}}, 5 REFIO, 6 REFGND, 7 REFCAP, 8 AGND, 9 AVDD, 10 AUX_IN, 11 AUX_GND, 12 NC, 13 NC, 14 NC, 15 NC, 16 AIN_0P, 17 AIN_0GND, 18 AIN_1P, 19 AIN_1GND, 20 AIN_2GND, 21 AIN_2P, 22 AIN_3GND, 23 AIN_3P, 24 NC, 25 NC, 26 NC, 27 NC, 28 AGND, 29 AGND, 30 AVDD, 31 AGND, 32 AGND, 33 DGND, 34 DVDD, 35 DNC, 36 SDO, 37 SCLK, 38 ~{{CS}}